# Altium integrated library Microchip Microcontroller 8-Bit PIC18.IntLib: 1070 symbols (part 26 of 43)
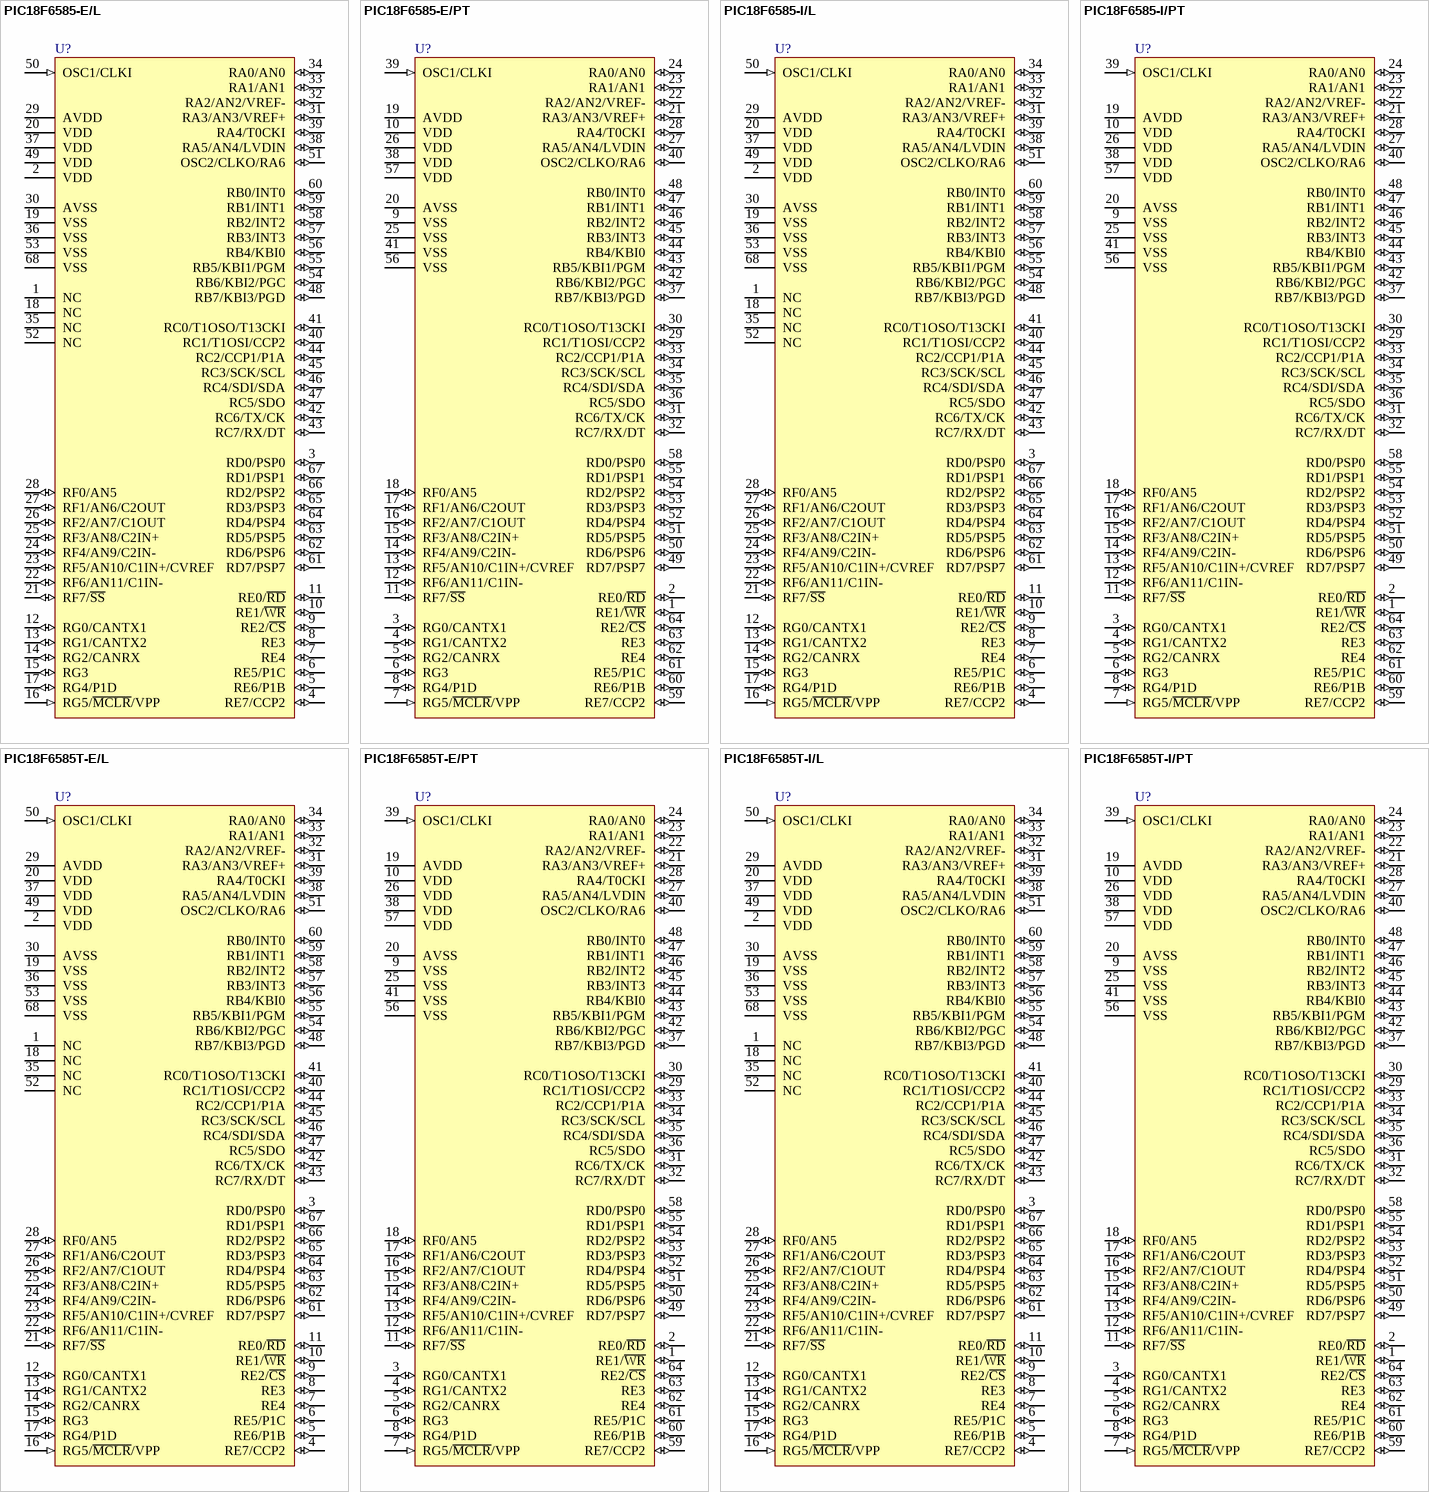
[diagram p149: symbols PIC18F6585-E/L to PIC18F6585T-I/PT]

## PIC18F6585T-E/PT
designator U?
High Performance, 48Kbyte Enhanced Flash Microcontroller with ECAN Module, 64-Pin TQFP, Extended Temperature, Tape and Reel; Published: 11-Oct-2004; LatestRevisionDate: 29-Jan-2009; LatestRevisionNote: Sch. layout revised. 3D Model Removed.; DatasheetVersion: revC, Mar-2004; PackageVersion: revAW, Oct-2008; PackageReference: TQFP-PT64; Publisher: Altium Limited; PackageDescription: 64-Lead Thin Plastic Quad Flat Pack (PT) - 10x10x1mm Body, 2.00mm [TQFP]; Code_JEDEC: MS-026; ComponentLink1Description: Manufacturer Link; ComponentLink1URL: http://www.microchip.com; ComponentLink2Description: Datasheet; ComponentLink2URL: http://ww1.microchip.com/downloads/en/DeviceDoc/30491c.pdf; ComponentLink3Description: Packaging Specification; ComponentLink3URL: http://ww1.microchip.com/downloads/en/PackagingSpec/00049AW.pdf
footprint TQFP-PT64_N (Thin QFP, 64-Leads, Body 10x10mm, Pitch 0.5mm, IPC Medium Density)
footprint TQFP-PT64_L (Thin QFP, 64-Leads, Body 10x10mm, Pitch 0.5mm, IPC High Density)
footprint TQFP-PT64_M (Thin QFP, 64-Leads, Body 10x10mm, Pitch 0.5mm, IPC Low Density)
pins: 1 RE1/~{WR} (io), 2 RE0/~{RD} (io), 3 RG0/CANTX1 (io), 4 RG1/CANTX2 (io), 5 RG2/CANRX (io), 6 RG3 (io), 7 RG5/~{MCLR}/VPP (in), 8 RG4/P1D (io), 9 VSS (power), 10 VDD (power), 11 RF7/~{SS} (io), 12 RF6/AN11/C1IN- (io), 13 RF5/AN10/C1IN+/CVREF (io), 14 RF4/AN9/C2IN- (io), 15 RF3/AN8/C2IN+ (io), 16 RF2/AN7/C1OUT (io), 17 RF1/AN6/C2OUT (io), 18 RF0/AN5 (io), 19 AVDD (power), 20 AVSS (power), 21 RA3/AN3/VREF+ (io), 22 RA2/AN2/VREF- (io), 23 RA1/AN1 (io), 24 RA0/AN0 (io), 25 VSS (power), 26 VDD (power), 27 RA5/AN4/LVDIN (io), 28 RA4/T0CKI (io), 29 RC1/T1OSI/CCP2 (io), 30 RC0/T1OSO/T13CKI (io), 31 RC6/TX/CK (io), 32 RC7/RX/DT (io), 33 RC2/CCP1/P1A (io), 34 RC3/SCK/SCL (io), 35 RC4/SDI/SDA (io), 36 RC5/SDO (io), 37 RB7/KBI3/PGD (io), 38 VDD (power), 39 OSC1/CLKI (in), 40 OSC2/CLKO/RA6 (io), 41 VSS (power), 42 RB6/KBI2/PGC (io), 43 RB5/KBI1/PGM (io), 44 RB4/KBI0 (io), 45 RB3/INT3 (io), 46 RB2/INT2 (io), 47 RB1/INT1 (io), 48 RB0/INT0 (io), 49 RD7/PSP7 (io), 50 RD6/PSP6 (io), 51 RD5/PSP5 (io), 52 RD4/PSP4 (io), 53 RD3/PSP3 (io), 54 RD2/PSP2 (io), 55 RD1/PSP1 (io), 56 VSS (power), 57 VDD (power), 58 RD0/PSP0 (io), 59 RE7/CCP2 (io), 60 RE6/P1B (io), 61 RE5/P1C (io), 62 RE4 (io), 63 RE3 (io), 64 RE2/~{CS} (io)

## PIC18F6585T-I/L
designator U?
High Performance, 48Kbyte Enhanced Flash Microcontroller with ECAN Module, 68-Pin PLCC, Industrial Temperature, Tape and Reel; Published: 11-Oct-2004; LatestRevisionDate: 29-Jan-2009; LatestRevisionNote: Sch. layout revised. 3D Model Removed.; DatasheetVersion: revC, Mar-2004; PackageVersion: revAW, Oct-2008; PackageReference: PLCC-L68; Publisher: Altium Limited; PackageDescription: 68-Lead Plastic Leaded Chip Carrier (L) - Square [PLCC]; Code_JEDEC: MO-047; Code_IPC: PLCC-68; ComponentLink1Description: Manufacturer Link; ComponentLink1URL: http://www.microchip.com; ComponentLink2Description: Datasheet; ComponentLink2URL: http://ww1.microchip.com/downloads/en/DeviceDoc/30491c.pdf; ComponentLink3Description: Packaging Specification; ComponentLink3URL: http://ww1.microchip.com/downloads/en/PackagingSpec/00049AW.pdf
footprint PLCC-L68_N (Leaded Chip Carrier, 68-Leads, Body 24x24mm, Pitch 1.27mm, IPC Medium Density)
footprint PLCC-L68_L (Leaded Chip Carrier, 68-Leads, Body 24x24mm, Pitch 1.27mm, IPC High Density)
footprint PLCC-L68_M (Leaded Chip Carrier, 68-Leads, Body 24x24mm, Pitch 1.27mm, IPC Low Density)
pins: 1 NC, 2 VDD (power), 3 RD0/PSP0 (io), 4 RE7/CCP2 (io), 5 RE6/P1B (io), 6 RE5/P1C (io), 7 RE4 (io), 8 RE3 (io), 9 RE2/~{CS} (io), 10 RE1/~{WR} (io), 11 RE0/~{RD} (io), 12 RG0/CANTX1 (io), 13 RG1/CANTX2 (io), 14 RG2/CANRX (io), 15 RG3 (io), 16 RG5/~{MCLR}/VPP (in), 17 RG4/P1D (io), 18 NC, 19 VSS (power), 20 VDD (power), 21 RF7/~{SS} (io), 22 RF6/AN11/C1IN- (io), 23 RF5/AN10/C1IN+/CVREF (io), 24 RF4/AN9/C2IN- (io), 25 RF3/AN8/C2IN+ (io), 26 RF2/AN7/C1OUT (io), 27 RF1/AN6/C2OUT (io), 28 RF0/AN5 (io), 29 AVDD (power), 30 AVSS (power), 31 RA3/AN3/VREF+ (io), 32 RA2/AN2/VREF- (io), 33 RA1/AN1 (io), 34 RA0/AN0 (io), 35 NC, 36 VSS (power), 37 VDD (power), 38 RA5/AN4/LVDIN (io), 39 RA4/T0CKI (io), 40 RC1/T1OSI/CCP2 (io), 41 RC0/T1OSO/T13CKI (io), 42 RC6/TX/CK (io), 43 RC7/RX/DT (io), 44 RC2/CCP1/P1A (io), 45 RC3/SCK/SCL (io), 46 RC4/SDI/SDA (io), 47 RC5/SDO (io), 48 RB7/KBI3/PGD (io), 49 VDD (power), 50 OSC1/CLKI (in), 51 OSC2/CLKO/RA6 (io), 52 NC, 53 VSS (power), 54 RB6/KBI2/PGC (io), 55 RB5/KBI1/PGM (io), 56 RB4/KBI0 (io), 57 RB3/INT3 (io), 58 RB2/INT2 (io), 59 RB1/INT1 (io), 60 RB0/INT0 (io), 61 RD7/PSP7 (io), 62 RD6/PSP6 (io), 63 RD5/PSP5 (io), 64 RD4/PSP4 (io), 65 RD3/PSP3 (io), 66 RD2/PSP2 (io), 67 RD1/PSP1 (io), 68 VSS (power)

## PIC18F6585T-I/PT
designator U?
High Performance, 48Kbyte Enhanced Flash Microcontroller with ECAN Module, 64-Pin TQFP, Industrial Temperature, Tape and Reel; Published: 11-Oct-2004; LatestRevisionDate: 29-Jan-2009; LatestRevisionNote: Sch. layout revised. 3D Model Removed.; DatasheetVersion: revC, Mar-2004; PackageVersion: revAW, Oct-2008; PackageReference: TQFP-PT64; Publisher: Altium Limited; PackageDescription: 64-Lead Thin Plastic Quad Flat Pack (PT) - 10x10x1mm Body, 2.00mm [TQFP]; Code_JEDEC: MS-026; ComponentLink1Description: Manufacturer Link; ComponentLink1URL: http://www.microchip.com; ComponentLink2Description: Datasheet; ComponentLink2URL: http://ww1.microchip.com/downloads/en/DeviceDoc/30491c.pdf; ComponentLink3Description: Packaging Specification; ComponentLink3URL: http://ww1.microchip.com/downloads/en/PackagingSpec/00049AW.pdf
footprint TQFP-PT64_N (Thin QFP, 64-Leads, Body 10x10mm, Pitch 0.5mm, IPC Medium Density)
footprint TQFP-PT64_L (Thin QFP, 64-Leads, Body 10x10mm, Pitch 0.5mm, IPC High Density)
footprint TQFP-PT64_M (Thin QFP, 64-Leads, Body 10x10mm, Pitch 0.5mm, IPC Low Density)
pins: 1 RE1/~{WR} (io), 2 RE0/~{RD} (io), 3 RG0/CANTX1 (io), 4 RG1/CANTX2 (io), 5 RG2/CANRX (io), 6 RG3 (io), 7 RG5/~{MCLR}/VPP (in), 8 RG4/P1D (io), 9 VSS (power), 10 VDD (power), 11 RF7/~{SS} (io), 12 RF6/AN11/C1IN- (io), 13 RF5/AN10/C1IN+/CVREF (io), 14 RF4/AN9/C2IN- (io), 15 RF3/AN8/C2IN+ (io), 16 RF2/AN7/C1OUT (io), 17 RF1/AN6/C2OUT (io), 18 RF0/AN5 (io), 19 AVDD (power), 20 AVSS (power), 21 RA3/AN3/VREF+ (io), 22 RA2/AN2/VREF- (io), 23 RA1/AN1 (io), 24 RA0/AN0 (io), 25 VSS (power), 26 VDD (power), 27 RA5/AN4/LVDIN (io), 28 RA4/T0CKI (io), 29 RC1/T1OSI/CCP2 (io), 30 RC0/T1OSO/T13CKI (io), 31 RC6/TX/CK (io), 32 RC7/RX/DT (io), 33 RC2/CCP1/P1A (io), 34 RC3/SCK/SCL (io), 35 RC4/SDI/SDA (io), 36 RC5/SDO (io), 37 RB7/KBI3/PGD (io), 38 VDD (power), 39 OSC1/CLKI (in), 40 OSC2/CLKO/RA6 (io), 41 VSS (power), 42 RB6/KBI2/PGC (io), 43 RB5/KBI1/PGM (io), 44 RB4/KBI0 (io), 45 RB3/INT3 (io), 46 RB2/INT2 (io), 47 RB1/INT1 (io), 48 RB0/INT0 (io), 49 RD7/PSP7 (io), 50 RD6/PSP6 (io), 51 RD5/PSP5 (io), 52 RD4/PSP4 (io), 53 RD3/PSP3 (io), 54 RD2/PSP2 (io), 55 RD1/PSP1 (io), 56 VSS (power), 57 VDD (power), 58 RD0/PSP0 (io), 59 RE7/CCP2 (io), 60 RE6/P1B (io), 61 RE5/P1C (io), 62 RE4 (io), 63 RE3 (io), 64 RE2/~{CS} (io)

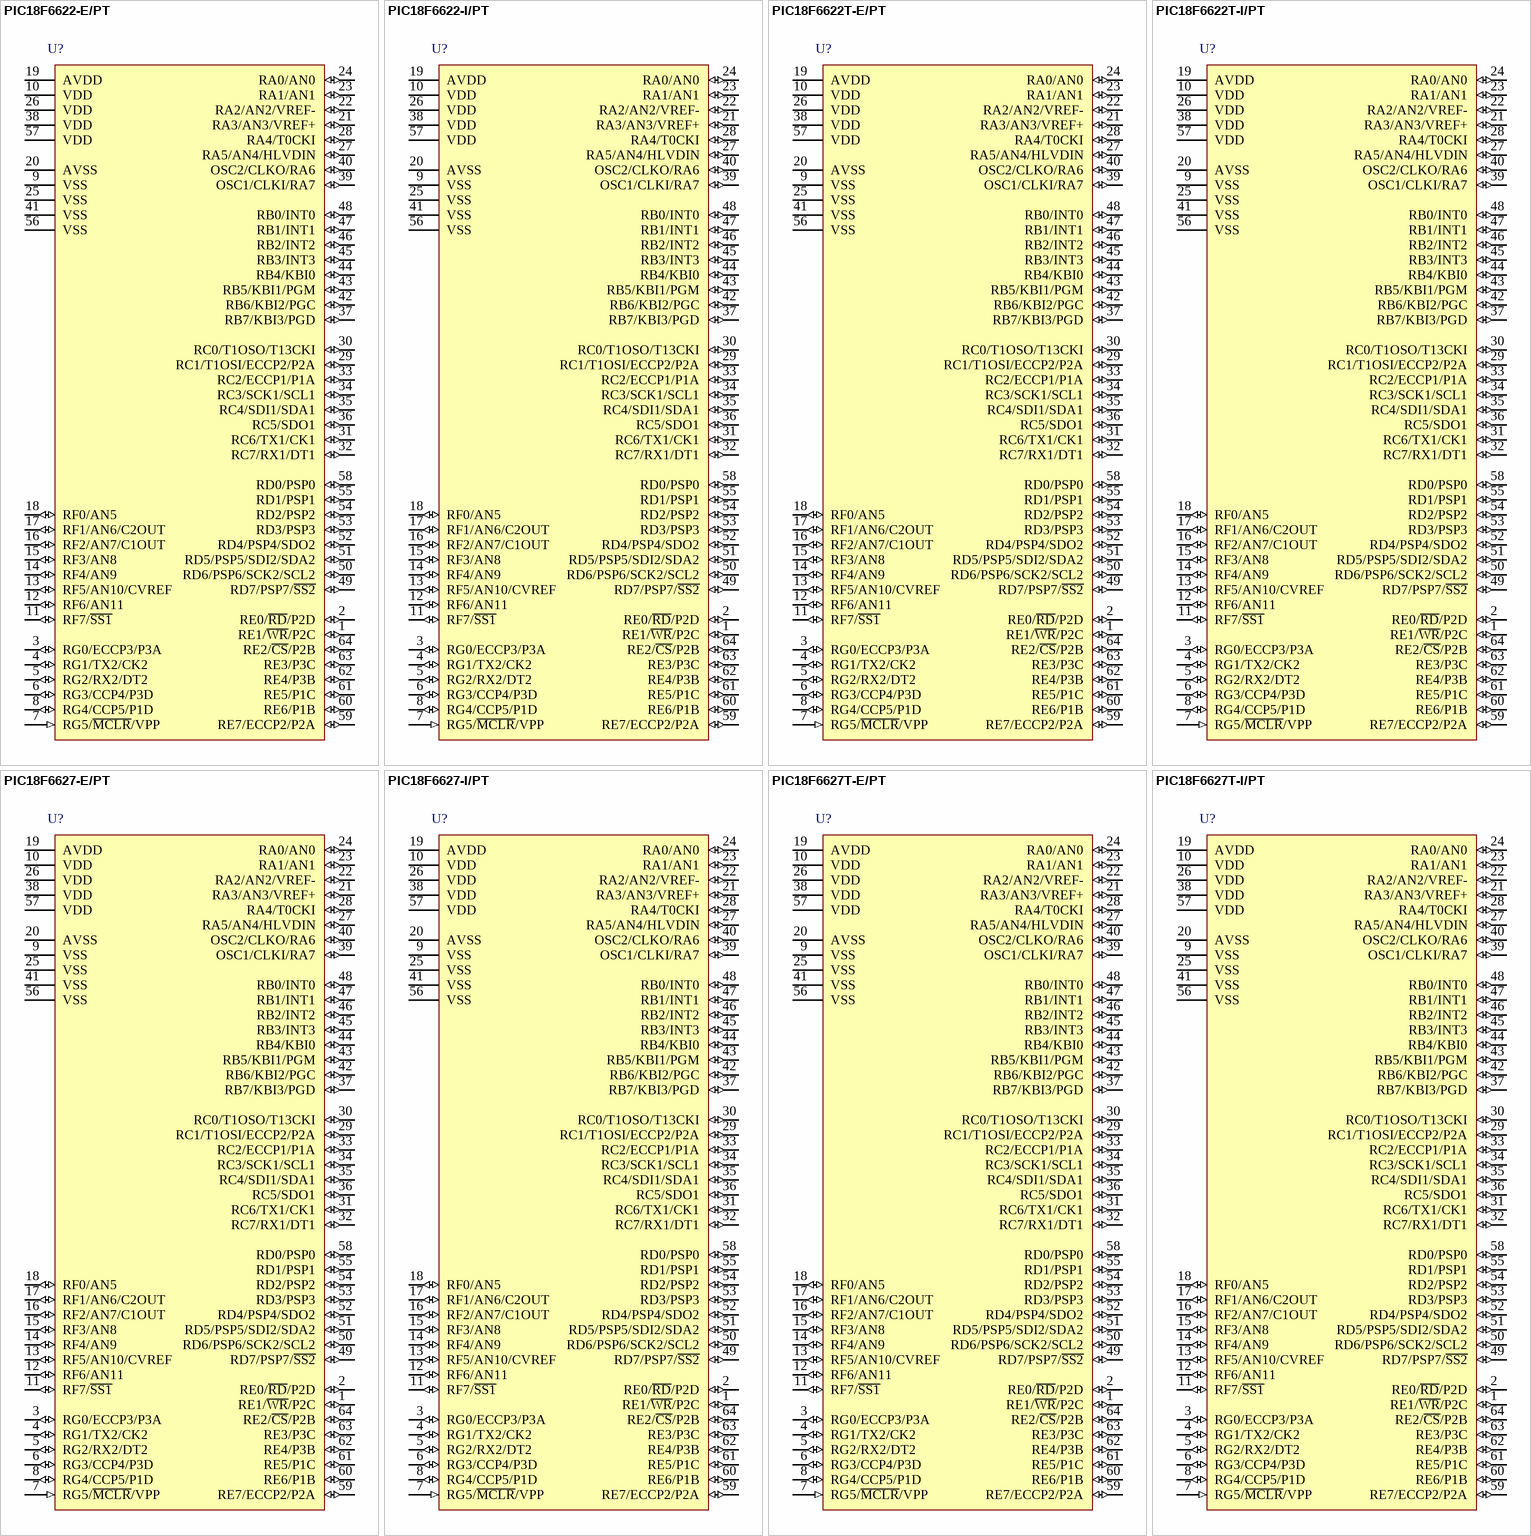
[diagram p71: symbols PIC18F6622-E/PT to PIC18F6627T-I/PT]

## PIC18F6622-E/PT
designator U?
1-Mbit, Enhanced Flash Microcontroller with 10-Bit A/D and nanoWatt Technology, 64K Flash, 64-Pin TQFP, Extended Temperature Range; Published: 29-Jan-2009; DatasheetVersion: revC, Oct-2008; PackageVersion: revAW, Oct-2008; PackageReference: TQFP-PT64; Publisher: Altium Limited; PackageDescription: 64-Lead Thin Plastic Quad Flat Pack (PT) - 10x10x1mm Body, 2.00mm [TQFP]; Code_JEDEC: MS-026; ComponentLink1Description: Manufacturer Link; ComponentLink1URL: http://www.microchip.com; ComponentLink2Description: Datasheet; ComponentLink2URL: http://ww1.microchip.com/downloads/en/DeviceDoc/39646c.pdf; ComponentLink3Description: Packaging Specification; ComponentLink3URL: http://ww1.microchip.com/downloads/en/PackagingSpec/00049AW.pdf
footprint TQFP-PT64_N (Thin QFP, 64-Leads, Body 10x10mm, Pitch 0.5mm, IPC Medium Density)
footprint TQFP-PT64_L (Thin QFP, 64-Leads, Body 10x10mm, Pitch 0.5mm, IPC High Density)
footprint TQFP-PT64_M (Thin QFP, 64-Leads, Body 10x10mm, Pitch 0.5mm, IPC Low Density)
pins: 1 RE1/~{WR}/P2C (io), 2 RE0/~{RD}/P2D (io), 3 RG0/ECCP3/P3A (io), 4 RG1/TX2/CK2 (io), 5 RG2/RX2/DT2 (io), 6 RG3/CCP4/P3D (io), 7 RG5/~{MCLR}/VPP (in), 8 RG4/CCP5/P1D (io), 9 VSS (power), 10 VDD (power), 11 RF7/~{SS1} (io), 12 RF6/AN11 (io), 13 RF5/AN10/CVREF (io), 14 RF4/AN9 (io), 15 RF3/AN8 (io), 16 RF2/AN7/C1OUT (io), 17 RF1/AN6/C2OUT (io), 18 RF0/AN5 (io), 19 AVDD (power), 20 AVSS (power), 21 RA3/AN3/VREF+ (io), 22 RA2/AN2/VREF- (io), 23 RA1/AN1 (io), 24 RA0/AN0 (io), 25 VSS (power), 26 VDD (power), 27 RA5/AN4/HLVDIN (io), 28 RA4/T0CKI (io), 29 RC1/T1OSI/ECCP2/P2A (io), 30 RC0/T1OSO/T13CKI (io), 31 RC6/TX1/CK1 (io), 32 RC7/RX1/DT1 (io), 33 RC2/ECCP1/P1A (io), 34 RC3/SCK1/SCL1 (io), 35 RC4/SDI1/SDA1 (io), 36 RC5/SDO1 (io), 37 RB7/KBI3/PGD (io), 38 VDD (power), 39 OSC1/CLKI/RA7 (io), 40 OSC2/CLKO/RA6 (io), 41 VSS (power), 42 RB6/KBI2/PGC (io), 43 RB5/KBI1/PGM (io), 44 RB4/KBI0 (io), 45 RB3/INT3 (io), 46 RB2/INT2 (io), 47 RB1/INT1 (io), 48 RB0/INT0 (io), 49 RD7/PSP7/~{SS2} (io), 50 RD6/PSP6/SCK2/SCL2 (io), 51 RD5/PSP5/SDI2/SDA2 (io), 52 RD4/PSP4/SDO2 (io), 53 RD3/PSP3 (io), 54 RD2/PSP2 (io), 55 RD1/PSP1 (io), 56 VSS (power), 57 VDD (power), 58 RD0/PSP0 (io), 59 RE7/ECCP2/P2A (io), 60 RE6/P1B (io), 61 RE5/P1C (io), 62 RE4/P3B (io), 63 RE3/P3C (io), 64 RE2/~{CS}/P2B (io)

## PIC18F6622-I/PT
designator U?
1-Mbit, Enhanced Flash Microcontroller with 10-Bit A/D and nanoWatt Technology, 64K Flash, 64-Pin TQFP, Industrial Temperature Range; Published: 29-Jan-2009; DatasheetVersion: revC, Oct-2008; PackageVersion: revAW, Oct-2008; PackageReference: TQFP-PT64; Publisher: Altium Limited; PackageDescription: 64-Lead Thin Plastic Quad Flat Pack (PT) - 10x10x1mm Body, 2.00mm [TQFP]; Code_JEDEC: MS-026; ComponentLink1Description: Manufacturer Link; ComponentLink1URL: http://www.microchip.com; ComponentLink2Description: Datasheet; ComponentLink2URL: http://ww1.microchip.com/downloads/en/DeviceDoc/39646c.pdf; ComponentLink3Description: Packaging Specification; ComponentLink3URL: http://ww1.microchip.com/downloads/en/PackagingSpec/00049AW.pdf
footprint TQFP-PT64_N (Thin QFP, 64-Leads, Body 10x10mm, Pitch 0.5mm, IPC Medium Density)
footprint TQFP-PT64_L (Thin QFP, 64-Leads, Body 10x10mm, Pitch 0.5mm, IPC High Density)
footprint TQFP-PT64_M (Thin QFP, 64-Leads, Body 10x10mm, Pitch 0.5mm, IPC Low Density)
pins: 1 RE1/~{WR}/P2C (io), 2 RE0/~{RD}/P2D (io), 3 RG0/ECCP3/P3A (io), 4 RG1/TX2/CK2 (io), 5 RG2/RX2/DT2 (io), 6 RG3/CCP4/P3D (io), 7 RG5/~{MCLR}/VPP (in), 8 RG4/CCP5/P1D (io), 9 VSS (power), 10 VDD (power), 11 RF7/~{SS1} (io), 12 RF6/AN11 (io), 13 RF5/AN10/CVREF (io), 14 RF4/AN9 (io), 15 RF3/AN8 (io), 16 RF2/AN7/C1OUT (io), 17 RF1/AN6/C2OUT (io), 18 RF0/AN5 (io), 19 AVDD (power), 20 AVSS (power), 21 RA3/AN3/VREF+ (io), 22 RA2/AN2/VREF- (io), 23 RA1/AN1 (io), 24 RA0/AN0 (io), 25 VSS (power), 26 VDD (power), 27 RA5/AN4/HLVDIN (io), 28 RA4/T0CKI (io), 29 RC1/T1OSI/ECCP2/P2A (io), 30 RC0/T1OSO/T13CKI (io), 31 RC6/TX1/CK1 (io), 32 RC7/RX1/DT1 (io), 33 RC2/ECCP1/P1A (io), 34 RC3/SCK1/SCL1 (io), 35 RC4/SDI1/SDA1 (io), 36 RC5/SDO1 (io), 37 RB7/KBI3/PGD (io), 38 VDD (power), 39 OSC1/CLKI/RA7 (io), 40 OSC2/CLKO/RA6 (io), 41 VSS (power), 42 RB6/KBI2/PGC (io), 43 RB5/KBI1/PGM (io), 44 RB4/KBI0 (io), 45 RB3/INT3 (io), 46 RB2/INT2 (io), 47 RB1/INT1 (io), 48 RB0/INT0 (io), 49 RD7/PSP7/~{SS2} (io), 50 RD6/PSP6/SCK2/SCL2 (io), 51 RD5/PSP5/SDI2/SDA2 (io), 52 RD4/PSP4/SDO2 (io), 53 RD3/PSP3 (io), 54 RD2/PSP2 (io), 55 RD1/PSP1 (io), 56 VSS (power), 57 VDD (power), 58 RD0/PSP0 (io), 59 RE7/ECCP2/P2A (io), 60 RE6/P1B (io), 61 RE5/P1C (io), 62 RE4/P3B (io), 63 RE3/P3C (io), 64 RE2/~{CS}/P2B (io)

## PIC18F6622T-E/PT
designator U?
1-Mbit, Enhanced Flash Microcontroller with 10-Bit A/D and nanoWatt Technology, 64K Flash, 64-Pin TQFP, Extended Temperature Range, Tape and Reel; Published: 29-Jan-2009; DatasheetVersion: revC, Oct-2008; PackageVersion: revAW, Oct-2008; PackageReference: TQFP-PT64; Publisher: Altium Limited; PackageDescription: 64-Lead Thin Plastic Quad Flat Pack (PT) - 10x10x1mm Body, 2.00mm [TQFP]; Code_JEDEC: MS-026; ComponentLink1Description: Manufacturer Link; ComponentLink1URL: http://www.microchip.com; ComponentLink2Description: Datasheet; ComponentLink2URL: http://ww1.microchip.com/downloads/en/DeviceDoc/39646c.pdf; ComponentLink3Description: Packaging Specification; ComponentLink3URL: http://ww1.microchip.com/downloads/en/PackagingSpec/00049AW.pdf
footprint TQFP-PT64_N (Thin QFP, 64-Leads, Body 10x10mm, Pitch 0.5mm, IPC Medium Density)
footprint TQFP-PT64_L (Thin QFP, 64-Leads, Body 10x10mm, Pitch 0.5mm, IPC High Density)
footprint TQFP-PT64_M (Thin QFP, 64-Leads, Body 10x10mm, Pitch 0.5mm, IPC Low Density)
pins: 1 RE1/~{WR}/P2C (io), 2 RE0/~{RD}/P2D (io), 3 RG0/ECCP3/P3A (io), 4 RG1/TX2/CK2 (io), 5 RG2/RX2/DT2 (io), 6 RG3/CCP4/P3D (io), 7 RG5/~{MCLR}/VPP (in), 8 RG4/CCP5/P1D (io), 9 VSS (power), 10 VDD (power), 11 RF7/~{SS1} (io), 12 RF6/AN11 (io), 13 RF5/AN10/CVREF (io), 14 RF4/AN9 (io), 15 RF3/AN8 (io), 16 RF2/AN7/C1OUT (io), 17 RF1/AN6/C2OUT (io), 18 RF0/AN5 (io), 19 AVDD (power), 20 AVSS (power), 21 RA3/AN3/VREF+ (io), 22 RA2/AN2/VREF- (io), 23 RA1/AN1 (io), 24 RA0/AN0 (io), 25 VSS (power), 26 VDD (power), 27 RA5/AN4/HLVDIN (io), 28 RA4/T0CKI (io), 29 RC1/T1OSI/ECCP2/P2A (io), 30 RC0/T1OSO/T13CKI (io), 31 RC6/TX1/CK1 (io), 32 RC7/RX1/DT1 (io), 33 RC2/ECCP1/P1A (io), 34 RC3/SCK1/SCL1 (io), 35 RC4/SDI1/SDA1 (io), 36 RC5/SDO1 (io), 37 RB7/KBI3/PGD (io), 38 VDD (power), 39 OSC1/CLKI/RA7 (io), 40 OSC2/CLKO/RA6 (io), 41 VSS (power), 42 RB6/KBI2/PGC (io), 43 RB5/KBI1/PGM (io), 44 RB4/KBI0 (io), 45 RB3/INT3 (io), 46 RB2/INT2 (io), 47 RB1/INT1 (io), 48 RB0/INT0 (io), 49 RD7/PSP7/~{SS2} (io), 50 RD6/PSP6/SCK2/SCL2 (io), 51 RD5/PSP5/SDI2/SDA2 (io), 52 RD4/PSP4/SDO2 (io), 53 RD3/PSP3 (io), 54 RD2/PSP2 (io), 55 RD1/PSP1 (io), 56 VSS (power), 57 VDD (power), 58 RD0/PSP0 (io), 59 RE7/ECCP2/P2A (io), 60 RE6/P1B (io), 61 RE5/P1C (io), 62 RE4/P3B (io), 63 RE3/P3C (io), 64 RE2/~{CS}/P2B (io)

## PIC18F6622T-I/PT
designator U?
1-Mbit, Enhanced Flash Microcontroller with 10-Bit A/D and nanoWatt Technology, 64K Flash, 64-Pin TQFP, Industrial Temperature Range, Tape and Reel; Published: 29-Jan-2009; DatasheetVersion: revC, Oct-2008; PackageVersion: revAW, Oct-2008; PackageReference: TQFP-PT64; Publisher: Altium Limited; PackageDescription: 64-Lead Thin Plastic Quad Flat Pack (PT) - 10x10x1mm Body, 2.00mm [TQFP]; Code_JEDEC: MS-026; ComponentLink1Description: Manufacturer Link; ComponentLink1URL: http://www.microchip.com; ComponentLink2Description: Datasheet; ComponentLink2URL: http://ww1.microchip.com/downloads/en/DeviceDoc/39646c.pdf; ComponentLink3Description: Packaging Specification; ComponentLink3URL: http://ww1.microchip.com/downloads/en/PackagingSpec/00049AW.pdf
footprint TQFP-PT64_N (Thin QFP, 64-Leads, Body 10x10mm, Pitch 0.5mm, IPC Medium Density)
footprint TQFP-PT64_L (Thin QFP, 64-Leads, Body 10x10mm, Pitch 0.5mm, IPC High Density)
footprint TQFP-PT64_M (Thin QFP, 64-Leads, Body 10x10mm, Pitch 0.5mm, IPC Low Density)
pins: 1 RE1/~{WR}/P2C (io), 2 RE0/~{RD}/P2D (io), 3 RG0/ECCP3/P3A (io), 4 RG1/TX2/CK2 (io), 5 RG2/RX2/DT2 (io), 6 RG3/CCP4/P3D (io), 7 RG5/~{MCLR}/VPP (in), 8 RG4/CCP5/P1D (io), 9 VSS (power), 10 VDD (power), 11 RF7/~{SS1} (io), 12 RF6/AN11 (io), 13 RF5/AN10/CVREF (io), 14 RF4/AN9 (io), 15 RF3/AN8 (io), 16 RF2/AN7/C1OUT (io), 17 RF1/AN6/C2OUT (io), 18 RF0/AN5 (io), 19 AVDD (power), 20 AVSS (power), 21 RA3/AN3/VREF+ (io), 22 RA2/AN2/VREF- (io), 23 RA1/AN1 (io), 24 RA0/AN0 (io), 25 VSS (power), 26 VDD (power), 27 RA5/AN4/HLVDIN (io), 28 RA4/T0CKI (io), 29 RC1/T1OSI/ECCP2/P2A (io), 30 RC0/T1OSO/T13CKI (io), 31 RC6/TX1/CK1 (io), 32 RC7/RX1/DT1 (io), 33 RC2/ECCP1/P1A (io), 34 RC3/SCK1/SCL1 (io), 35 RC4/SDI1/SDA1 (io), 36 RC5/SDO1 (io), 37 RB7/KBI3/PGD (io), 38 VDD (power), 39 OSC1/CLKI/RA7 (io), 40 OSC2/CLKO/RA6 (io), 41 VSS (power), 42 RB6/KBI2/PGC (io), 43 RB5/KBI1/PGM (io), 44 RB4/KBI0 (io), 45 RB3/INT3 (io), 46 RB2/INT2 (io), 47 RB1/INT1 (io), 48 RB0/INT0 (io), 49 RD7/PSP7/~{SS2} (io), 50 RD6/PSP6/SCK2/SCL2 (io), 51 RD5/PSP5/SDI2/SDA2 (io), 52 RD4/PSP4/SDO2 (io), 53 RD3/PSP3 (io), 54 RD2/PSP2 (io), 55 RD1/PSP1 (io), 56 VSS (power), 57 VDD (power), 58 RD0/PSP0 (io), 59 RE7/ECCP2/P2A (io), 60 RE6/P1B (io), 61 RE5/P1C (io), 62 RE4/P3B (io), 63 RE3/P3C (io), 64 RE2/~{CS}/P2B (io)

## PIC18F6627-E/PT
designator U?
1-Mbit, Enhanced Flash Microcontroller with 10-Bit A/D and nanoWatt Technology, 96K Flash, 64-Pin TQFP, Extended Temperature Range; Published: 29-Jan-2009; DatasheetVersion: revC, Oct-2008; PackageVersion: revAW, Oct-2008; PackageReference: TQFP-PT64; Publisher: Altium Limited; PackageDescription: 64-Lead Thin Plastic Quad Flat Pack (PT) - 10x10x1mm Body, 2.00mm [TQFP]; Code_JEDEC: MS-026; ComponentLink1Description: Manufacturer Link; ComponentLink1URL: http://www.microchip.com; ComponentLink2Description: Datasheet; ComponentLink2URL: http://ww1.microchip.com/downloads/en/DeviceDoc/39646c.pdf; ComponentLink3Description: Packaging Specification; ComponentLink3URL: http://ww1.microchip.com/downloads/en/PackagingSpec/00049AW.pdf
footprint TQFP-PT64_N (Thin QFP, 64-Leads, Body 10x10mm, Pitch 0.5mm, IPC Medium Density)
footprint TQFP-PT64_L (Thin QFP, 64-Leads, Body 10x10mm, Pitch 0.5mm, IPC High Density)
footprint TQFP-PT64_M (Thin QFP, 64-Leads, Body 10x10mm, Pitch 0.5mm, IPC Low Density)
pins: 1 RE1/~{WR}/P2C (io), 2 RE0/~{RD}/P2D (io), 3 RG0/ECCP3/P3A (io), 4 RG1/TX2/CK2 (io), 5 RG2/RX2/DT2 (io), 6 RG3/CCP4/P3D (io), 7 RG5/~{MCLR}/VPP (in), 8 RG4/CCP5/P1D (io), 9 VSS (power), 10 VDD (power), 11 RF7/~{SS1} (io), 12 RF6/AN11 (io), 13 RF5/AN10/CVREF (io), 14 RF4/AN9 (io), 15 RF3/AN8 (io), 16 RF2/AN7/C1OUT (io), 17 RF1/AN6/C2OUT (io), 18 RF0/AN5 (io), 19 AVDD (power), 20 AVSS (power), 21 RA3/AN3/VREF+ (io), 22 RA2/AN2/VREF- (io), 23 RA1/AN1 (io), 24 RA0/AN0 (io), 25 VSS (power), 26 VDD (power), 27 RA5/AN4/HLVDIN (io), 28 RA4/T0CKI (io), 29 RC1/T1OSI/ECCP2/P2A (io), 30 RC0/T1OSO/T13CKI (io), 31 RC6/TX1/CK1 (io), 32 RC7/RX1/DT1 (io), 33 RC2/ECCP1/P1A (io), 34 RC3/SCK1/SCL1 (io), 35 RC4/SDI1/SDA1 (io), 36 RC5/SDO1 (io), 37 RB7/KBI3/PGD (io), 38 VDD (power), 39 OSC1/CLKI/RA7 (io), 40 OSC2/CLKO/RA6 (io), 41 VSS (power), 42 RB6/KBI2/PGC (io), 43 RB5/KBI1/PGM (io), 44 RB4/KBI0 (io), 45 RB3/INT3 (io), 46 RB2/INT2 (io), 47 RB1/INT1 (io), 48 RB0/INT0 (io), 49 RD7/PSP7/~{SS2} (io), 50 RD6/PSP6/SCK2/SCL2 (io), 51 RD5/PSP5/SDI2/SDA2 (io), 52 RD4/PSP4/SDO2 (io), 53 RD3/PSP3 (io), 54 RD2/PSP2 (io), 55 RD1/PSP1 (io), 56 VSS (power), 57 VDD (power), 58 RD0/PSP0 (io), 59 RE7/ECCP2/P2A (io), 60 RE6/P1B (io), 61 RE5/P1C (io), 62 RE4/P3B (io), 63 RE3/P3C (io), 64 RE2/~{CS}/P2B (io)

## PIC18F6627-I/PT
designator U?
1-Mbit, Enhanced Flash Microcontroller with 10-Bit A/D and nanoWatt Technology, 96K Flash, 64-Pin TQFP, Industrial Temperature Range; Published: 29-Jan-2009; DatasheetVersion: revC, Oct-2008; PackageVersion: revAW, Oct-2008; PackageReference: TQFP-PT64; Publisher: Altium Limited; PackageDescription: 64-Lead Thin Plastic Quad Flat Pack (PT) - 10x10x1mm Body, 2.00mm [TQFP]; Code_JEDEC: MS-026; ComponentLink1Description: Manufacturer Link; ComponentLink1URL: http://www.microchip.com; ComponentLink2Description: Datasheet; ComponentLink2URL: http://ww1.microchip.com/downloads/en/DeviceDoc/39646c.pdf; ComponentLink3Description: Packaging Specification; ComponentLink3URL: http://ww1.microchip.com/downloads/en/PackagingSpec/00049AW.pdf
footprint TQFP-PT64_N (Thin QFP, 64-Leads, Body 10x10mm, Pitch 0.5mm, IPC Medium Density)
footprint TQFP-PT64_L (Thin QFP, 64-Leads, Body 10x10mm, Pitch 0.5mm, IPC High Density)
footprint TQFP-PT64_M (Thin QFP, 64-Leads, Body 10x10mm, Pitch 0.5mm, IPC Low Density)
pins: 1 RE1/~{WR}/P2C (io), 2 RE0/~{RD}/P2D (io), 3 RG0/ECCP3/P3A (io), 4 RG1/TX2/CK2 (io), 5 RG2/RX2/DT2 (io), 6 RG3/CCP4/P3D (io), 7 RG5/~{MCLR}/VPP (in), 8 RG4/CCP5/P1D (io), 9 VSS (power), 10 VDD (power), 11 RF7/~{SS1} (io), 12 RF6/AN11 (io), 13 RF5/AN10/CVREF (io), 14 RF4/AN9 (io), 15 RF3/AN8 (io), 16 RF2/AN7/C1OUT (io), 17 RF1/AN6/C2OUT (io), 18 RF0/AN5 (io), 19 AVDD (power), 20 AVSS (power), 21 RA3/AN3/VREF+ (io), 22 RA2/AN2/VREF- (io), 23 RA1/AN1 (io), 24 RA0/AN0 (io), 25 VSS (power), 26 VDD (power), 27 RA5/AN4/HLVDIN (io), 28 RA4/T0CKI (io), 29 RC1/T1OSI/ECCP2/P2A (io), 30 RC0/T1OSO/T13CKI (io), 31 RC6/TX1/CK1 (io), 32 RC7/RX1/DT1 (io), 33 RC2/ECCP1/P1A (io), 34 RC3/SCK1/SCL1 (io), 35 RC4/SDI1/SDA1 (io), 36 RC5/SDO1 (io), 37 RB7/KBI3/PGD (io), 38 VDD (power), 39 OSC1/CLKI/RA7 (io), 40 OSC2/CLKO/RA6 (io), 41 VSS (power), 42 RB6/KBI2/PGC (io), 43 RB5/KBI1/PGM (io), 44 RB4/KBI0 (io), 45 RB3/INT3 (io), 46 RB2/INT2 (io), 47 RB1/INT1 (io), 48 RB0/INT0 (io), 49 RD7/PSP7/~{SS2} (io), 50 RD6/PSP6/SCK2/SCL2 (io), 51 RD5/PSP5/SDI2/SDA2 (io), 52 RD4/PSP4/SDO2 (io), 53 RD3/PSP3 (io), 54 RD2/PSP2 (io), 55 RD1/PSP1 (io), 56 VSS (power), 57 VDD (power), 58 RD0/PSP0 (io), 59 RE7/ECCP2/P2A (io), 60 RE6/P1B (io), 61 RE5/P1C (io), 62 RE4/P3B (io), 63 RE3/P3C (io), 64 RE2/~{CS}/P2B (io)

## PIC18F6627T-E/PT
designator U?
1-Mbit, Enhanced Flash Microcontroller with 10-Bit A/D and nanoWatt Technology, 96K Flash, 64-Pin TQFP, Extended Temperature Range, Tape and Reel; Published: 29-Jan-2009; DatasheetVersion: revC, Oct-2008; PackageVersion: revAW, Oct-2008; PackageReference: TQFP-PT64; Publisher: Altium Limited; PackageDescription: 64-Lead Thin Plastic Quad Flat Pack (PT) - 10x10x1mm Body, 2.00mm [TQFP]; Code_JEDEC: MS-026; ComponentLink1Description: Manufacturer Link; ComponentLink1URL: http://www.microchip.com; ComponentLink2Description: Datasheet; ComponentLink2URL: http://ww1.microchip.com/downloads/en/DeviceDoc/39646c.pdf; ComponentLink3Description: Packaging Specification; ComponentLink3URL: http://ww1.microchip.com/downloads/en/PackagingSpec/00049AW.pdf
footprint TQFP-PT64_N (Thin QFP, 64-Leads, Body 10x10mm, Pitch 0.5mm, IPC Medium Density)
footprint TQFP-PT64_L (Thin QFP, 64-Leads, Body 10x10mm, Pitch 0.5mm, IPC High Density)
footprint TQFP-PT64_M (Thin QFP, 64-Leads, Body 10x10mm, Pitch 0.5mm, IPC Low Density)
pins: 1 RE1/~{WR}/P2C (io), 2 RE0/~{RD}/P2D (io), 3 RG0/ECCP3/P3A (io), 4 RG1/TX2/CK2 (io), 5 RG2/RX2/DT2 (io), 6 RG3/CCP4/P3D (io), 7 RG5/~{MCLR}/VPP (in), 8 RG4/CCP5/P1D (io), 9 VSS (power), 10 VDD (power), 11 RF7/~{SS1} (io), 12 RF6/AN11 (io), 13 RF5/AN10/CVREF (io), 14 RF4/AN9 (io), 15 RF3/AN8 (io), 16 RF2/AN7/C1OUT (io), 17 RF1/AN6/C2OUT (io), 18 RF0/AN5 (io), 19 AVDD (power), 20 AVSS (power), 21 RA3/AN3/VREF+ (io), 22 RA2/AN2/VREF- (io), 23 RA1/AN1 (io), 24 RA0/AN0 (io), 25 VSS (power), 26 VDD (power), 27 RA5/AN4/HLVDIN (io), 28 RA4/T0CKI (io), 29 RC1/T1OSI/ECCP2/P2A (io), 30 RC0/T1OSO/T13CKI (io), 31 RC6/TX1/CK1 (io), 32 RC7/RX1/DT1 (io), 33 RC2/ECCP1/P1A (io), 34 RC3/SCK1/SCL1 (io), 35 RC4/SDI1/SDA1 (io), 36 RC5/SDO1 (io), 37 RB7/KBI3/PGD (io), 38 VDD (power), 39 OSC1/CLKI/RA7 (io), 40 OSC2/CLKO/RA6 (io), 41 VSS (power), 42 RB6/KBI2/PGC (io), 43 RB5/KBI1/PGM (io), 44 RB4/KBI0 (io), 45 RB3/INT3 (io), 46 RB2/INT2 (io), 47 RB1/INT1 (io), 48 RB0/INT0 (io), 49 RD7/PSP7/~{SS2} (io), 50 RD6/PSP6/SCK2/SCL2 (io), 51 RD5/PSP5/SDI2/SDA2 (io), 52 RD4/PSP4/SDO2 (io), 53 RD3/PSP3 (io), 54 RD2/PSP2 (io), 55 RD1/PSP1 (io), 56 VSS (power), 57 VDD (power), 58 RD0/PSP0 (io), 59 RE7/ECCP2/P2A (io), 60 RE6/P1B (io), 61 RE5/P1C (io), 62 RE4/P3B (io), 63 RE3/P3C (io), 64 RE2/~{CS}/P2B (io)

## PIC18F6627T-I/PT
designator U?
1-Mbit, Enhanced Flash Microcontroller with 10-Bit A/D and nanoWatt Technology, 96K Flash, 64-Pin TQFP, Industrial Temperature Range, Tape and Reel; Published: 29-Jan-2009; DatasheetVersion: revC, Oct-2008; PackageVersion: revAW, Oct-2008; PackageReference: TQFP-PT64; Publisher: Altium Limited; PackageDescription: 64-Lead Thin Plastic Quad Flat Pack (PT) - 10x10x1mm Body, 2.00mm [TQFP]; Code_JEDEC: MS-026; ComponentLink1Description: Manufacturer Link; ComponentLink1URL: http://www.microchip.com; ComponentLink2Description: Datasheet; ComponentLink2URL: http://ww1.microchip.com/downloads/en/DeviceDoc/39646c.pdf; ComponentLink3Description: Packaging Specification; ComponentLink3URL: http://ww1.microchip.com/downloads/en/PackagingSpec/00049AW.pdf
footprint TQFP-PT64_N (Thin QFP, 64-Leads, Body 10x10mm, Pitch 0.5mm, IPC Medium Density)
footprint TQFP-PT64_L (Thin QFP, 64-Leads, Body 10x10mm, Pitch 0.5mm, IPC High Density)
footprint TQFP-PT64_M (Thin QFP, 64-Leads, Body 10x10mm, Pitch 0.5mm, IPC Low Density)
pins: 1 RE1/~{WR}/P2C (io), 2 RE0/~{RD}/P2D (io), 3 RG0/ECCP3/P3A (io), 4 RG1/TX2/CK2 (io), 5 RG2/RX2/DT2 (io), 6 RG3/CCP4/P3D (io), 7 RG5/~{MCLR}/VPP (in), 8 RG4/CCP5/P1D (io), 9 VSS (power), 10 VDD (power), 11 RF7/~{SS1} (io), 12 RF6/AN11 (io), 13 RF5/AN10/CVREF (io), 14 RF4/AN9 (io), 15 RF3/AN8 (io), 16 RF2/AN7/C1OUT (io), 17 RF1/AN6/C2OUT (io), 18 RF0/AN5 (io), 19 AVDD (power), 20 AVSS (power), 21 RA3/AN3/VREF+ (io), 22 RA2/AN2/VREF- (io), 23 RA1/AN1 (io), 24 RA0/AN0 (io), 25 VSS (power), 26 VDD (power), 27 RA5/AN4/HLVDIN (io), 28 RA4/T0CKI (io), 29 RC1/T1OSI/ECCP2/P2A (io), 30 RC0/T1OSO/T13CKI (io), 31 RC6/TX1/CK1 (io), 32 RC7/RX1/DT1 (io), 33 RC2/ECCP1/P1A (io), 34 RC3/SCK1/SCL1 (io), 35 RC4/SDI1/SDA1 (io), 36 RC5/SDO1 (io), 37 RB7/KBI3/PGD (io), 38 VDD (power), 39 OSC1/CLKI/RA7 (io), 40 OSC2/CLKO/RA6 (io), 41 VSS (power), 42 RB6/KBI2/PGC (io), 43 RB5/KBI1/PGM (io), 44 RB4/KBI0 (io), 45 RB3/INT3 (io), 46 RB2/INT2 (io), 47 RB1/INT1 (io), 48 RB0/INT0 (io), 49 RD7/PSP7/~{SS2} (io), 50 RD6/PSP6/SCK2/SCL2 (io), 51 RD5/PSP5/SDI2/SDA2 (io), 52 RD4/PSP4/SDO2 (io), 53 RD3/PSP3 (io), 54 RD2/PSP2 (io), 55 RD1/PSP1 (io), 56 VSS (power), 57 VDD (power), 58 RD0/PSP0 (io), 59 RE7/ECCP2/P2A (io), 60 RE6/P1B (io), 61 RE5/P1C (io), 62 RE4/P3B (io), 63 RE3/P3C (io), 64 RE2/~{CS}/P2B (io)

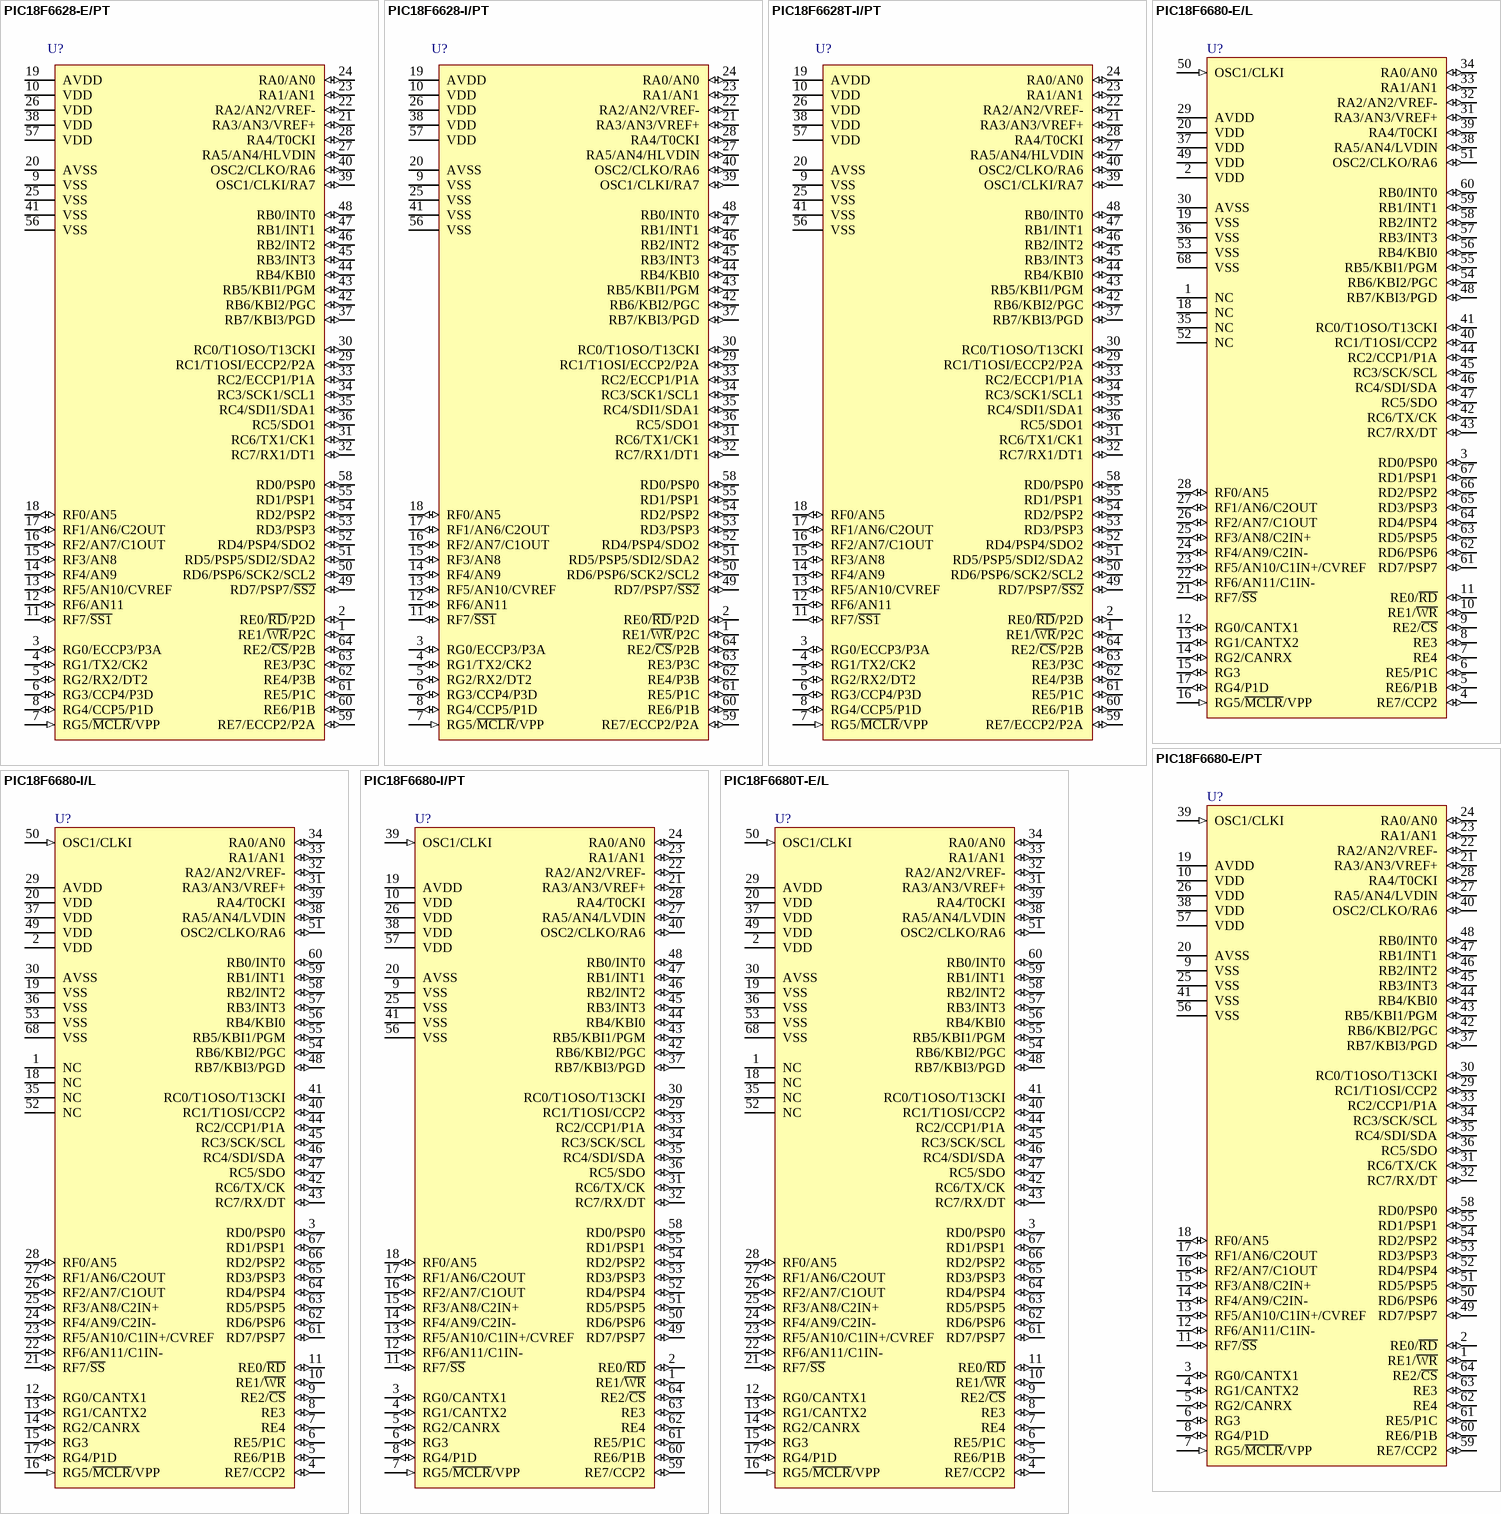
[diagram p72: symbols PIC18F6628-E/PT to PIC18F6680T-E/L]

## PIC18F6628-E/PT
designator U?
Enhanced Flash Microcontroller with 12-Bit A/D and nanoWatt Technology, 96K Flash, 64-Pin TQFP, Extended Temperature; Published: 29-Jan-2009; DatasheetVersion: revA, Aug-2007; PackageVersion: revAW, Oct-2008; PackageReference: TQFP-PT64; Publisher: Altium Limited; PackageDescription: 64-Lead Thin Plastic Quad Flat Pack (PT) - 10x10x1mm Body, 2.00mm [TQFP]; Code_JEDEC: MS-026; ComponentLink1Description: Manufacturer Link; ComponentLink1URL: http://www.microchip.com; ComponentLink2Description: Datasheet; ComponentLink2URL: http://ww1.microchip.com/downloads/en/DeviceDoc/39894A.pdf; ComponentLink3Description: Packaging Specification; ComponentLink3URL: http://ww1.microchip.com/downloads/en/PackagingSpec/00049AW.pdf
footprint TQFP-PT64_N (Thin QFP, 64-Leads, Body 10x10mm, Pitch 0.5mm, IPC Medium Density)
footprint TQFP-PT64_L (Thin QFP, 64-Leads, Body 10x10mm, Pitch 0.5mm, IPC High Density)
footprint TQFP-PT64_M (Thin QFP, 64-Leads, Body 10x10mm, Pitch 0.5mm, IPC Low Density)
pins: 1 RE1/~{WR}/P2C (io), 2 RE0/~{RD}/P2D (io), 3 RG0/ECCP3/P3A (io), 4 RG1/TX2/CK2 (io), 5 RG2/RX2/DT2 (io), 6 RG3/CCP4/P3D (io), 7 RG5/~{MCLR}/VPP (in), 8 RG4/CCP5/P1D (io), 9 VSS (power), 10 VDD (power), 11 RF7/~{SS1} (io), 12 RF6/AN11 (io), 13 RF5/AN10/CVREF (io), 14 RF4/AN9 (io), 15 RF3/AN8 (io), 16 RF2/AN7/C1OUT (io), 17 RF1/AN6/C2OUT (io), 18 RF0/AN5 (io), 19 AVDD (power), 20 AVSS (power), 21 RA3/AN3/VREF+ (io), 22 RA2/AN2/VREF- (io), 23 RA1/AN1 (io), 24 RA0/AN0 (io), 25 VSS (power), 26 VDD (power), 27 RA5/AN4/HLVDIN (io), 28 RA4/T0CKI (io), 29 RC1/T1OSI/ECCP2/P2A (io), 30 RC0/T1OSO/T13CKI (io), 31 RC6/TX1/CK1 (io), 32 RC7/RX1/DT1 (io), 33 RC2/ECCP1/P1A (io), 34 RC3/SCK1/SCL1 (io), 35 RC4/SDI1/SDA1 (io), 36 RC5/SDO1 (io), 37 RB7/KBI3/PGD (io), 38 VDD (power), 39 OSC1/CLKI/RA7 (io), 40 OSC2/CLKO/RA6 (io), 41 VSS (power), 42 RB6/KBI2/PGC (io), 43 RB5/KBI1/PGM (io), 44 RB4/KBI0 (io), 45 RB3/INT3 (io), 46 RB2/INT2 (io), 47 RB1/INT1 (io), 48 RB0/INT0 (io), 49 RD7/PSP7/~{SS2} (io), 50 RD6/PSP6/SCK2/SCL2 (io), 51 RD5/PSP5/SDI2/SDA2 (io), 52 RD4/PSP4/SDO2 (io), 53 RD3/PSP3 (io), 54 RD2/PSP2 (io), 55 RD1/PSP1 (io), 56 VSS (power), 57 VDD (power), 58 RD0/PSP0 (io), 59 RE7/ECCP2/P2A (io), 60 RE6/P1B (io), 61 RE5/P1C (io), 62 RE4/P3B (io), 63 RE3/P3C (io), 64 RE2/~{CS}/P2B (io)

## PIC18F6628-I/PT
designator U?
Enhanced Flash Microcontroller with 12-Bit A/D and nanoWatt Technology, 96K Flash, 64-Pin TQFP, Industrial Temperature; Published: 29-Jan-2009; DatasheetVersion: revA, Aug-2007; PackageVersion: revAW, Oct-2008; PackageReference: TQFP-PT64; Publisher: Altium Limited; PackageDescription: 64-Lead Thin Plastic Quad Flat Pack (PT) - 10x10x1mm Body, 2.00mm [TQFP]; Code_JEDEC: MS-026; ComponentLink1Description: Manufacturer Link; ComponentLink1URL: http://www.microchip.com; ComponentLink2Description: Datasheet; ComponentLink2URL: http://ww1.microchip.com/downloads/en/DeviceDoc/39894A.pdf; ComponentLink3Description: Packaging Specification; ComponentLink3URL: http://ww1.microchip.com/downloads/en/PackagingSpec/00049AW.pdf
footprint TQFP-PT64_N (Thin QFP, 64-Leads, Body 10x10mm, Pitch 0.5mm, IPC Medium Density)
footprint TQFP-PT64_L (Thin QFP, 64-Leads, Body 10x10mm, Pitch 0.5mm, IPC High Density)
footprint TQFP-PT64_M (Thin QFP, 64-Leads, Body 10x10mm, Pitch 0.5mm, IPC Low Density)
pins: 1 RE1/~{WR}/P2C (io), 2 RE0/~{RD}/P2D (io), 3 RG0/ECCP3/P3A (io), 4 RG1/TX2/CK2 (io), 5 RG2/RX2/DT2 (io), 6 RG3/CCP4/P3D (io), 7 RG5/~{MCLR}/VPP (in), 8 RG4/CCP5/P1D (io), 9 VSS (power), 10 VDD (power), 11 RF7/~{SS1} (io), 12 RF6/AN11 (io), 13 RF5/AN10/CVREF (io), 14 RF4/AN9 (io), 15 RF3/AN8 (io), 16 RF2/AN7/C1OUT (io), 17 RF1/AN6/C2OUT (io), 18 RF0/AN5 (io), 19 AVDD (power), 20 AVSS (power), 21 RA3/AN3/VREF+ (io), 22 RA2/AN2/VREF- (io), 23 RA1/AN1 (io), 24 RA0/AN0 (io), 25 VSS (power), 26 VDD (power), 27 RA5/AN4/HLVDIN (io), 28 RA4/T0CKI (io), 29 RC1/T1OSI/ECCP2/P2A (io), 30 RC0/T1OSO/T13CKI (io), 31 RC6/TX1/CK1 (io), 32 RC7/RX1/DT1 (io), 33 RC2/ECCP1/P1A (io), 34 RC3/SCK1/SCL1 (io), 35 RC4/SDI1/SDA1 (io), 36 RC5/SDO1 (io), 37 RB7/KBI3/PGD (io), 38 VDD (power), 39 OSC1/CLKI/RA7 (io), 40 OSC2/CLKO/RA6 (io), 41 VSS (power), 42 RB6/KBI2/PGC (io), 43 RB5/KBI1/PGM (io), 44 RB4/KBI0 (io), 45 RB3/INT3 (io), 46 RB2/INT2 (io), 47 RB1/INT1 (io), 48 RB0/INT0 (io), 49 RD7/PSP7/~{SS2} (io), 50 RD6/PSP6/SCK2/SCL2 (io), 51 RD5/PSP5/SDI2/SDA2 (io), 52 RD4/PSP4/SDO2 (io), 53 RD3/PSP3 (io), 54 RD2/PSP2 (io), 55 RD1/PSP1 (io), 56 VSS (power), 57 VDD (power), 58 RD0/PSP0 (io), 59 RE7/ECCP2/P2A (io), 60 RE6/P1B (io), 61 RE5/P1C (io), 62 RE4/P3B (io), 63 RE3/P3C (io), 64 RE2/~{CS}/P2B (io)

## PIC18F6628T-I/PT
designator U?
Enhanced Flash Microcontroller with 12-Bit A/D and nanoWatt Technology, 96K Flash, 64-Pin TQFP, Industrial Temperature, Tape and Reel; Published: 29-Jan-2009; DatasheetVersion: revA, Aug-2007; PackageVersion: revAW, Oct-2008; PackageReference: TQFP-PT64; Publisher: Altium Limited; PackageDescription: 64-Lead Thin Plastic Quad Flat Pack (PT) - 10x10x1mm Body, 2.00mm [TQFP]; Code_JEDEC: MS-026; ComponentLink1Description: Manufacturer Link; ComponentLink1URL: http://www.microchip.com; ComponentLink2Description: Datasheet; ComponentLink2URL: http://ww1.microchip.com/downloads/en/DeviceDoc/39894A.pdf; ComponentLink3Description: Packaging Specification; ComponentLink3URL: http://ww1.microchip.com/downloads/en/PackagingSpec/00049AW.pdf
footprint TQFP-PT64_N (Thin QFP, 64-Leads, Body 10x10mm, Pitch 0.5mm, IPC Medium Density)
footprint TQFP-PT64_L (Thin QFP, 64-Leads, Body 10x10mm, Pitch 0.5mm, IPC High Density)
footprint TQFP-PT64_M (Thin QFP, 64-Leads, Body 10x10mm, Pitch 0.5mm, IPC Low Density)
pins: 1 RE1/~{WR}/P2C (io), 2 RE0/~{RD}/P2D (io), 3 RG0/ECCP3/P3A (io), 4 RG1/TX2/CK2 (io), 5 RG2/RX2/DT2 (io), 6 RG3/CCP4/P3D (io), 7 RG5/~{MCLR}/VPP (in), 8 RG4/CCP5/P1D (io), 9 VSS (power), 10 VDD (power), 11 RF7/~{SS1} (io), 12 RF6/AN11 (io), 13 RF5/AN10/CVREF (io), 14 RF4/AN9 (io), 15 RF3/AN8 (io), 16 RF2/AN7/C1OUT (io), 17 RF1/AN6/C2OUT (io), 18 RF0/AN5 (io), 19 AVDD (power), 20 AVSS (power), 21 RA3/AN3/VREF+ (io), 22 RA2/AN2/VREF- (io), 23 RA1/AN1 (io), 24 RA0/AN0 (io), 25 VSS (power), 26 VDD (power), 27 RA5/AN4/HLVDIN (io), 28 RA4/T0CKI (io), 29 RC1/T1OSI/ECCP2/P2A (io), 30 RC0/T1OSO/T13CKI (io), 31 RC6/TX1/CK1 (io), 32 RC7/RX1/DT1 (io), 33 RC2/ECCP1/P1A (io), 34 RC3/SCK1/SCL1 (io), 35 RC4/SDI1/SDA1 (io), 36 RC5/SDO1 (io), 37 RB7/KBI3/PGD (io), 38 VDD (power), 39 OSC1/CLKI/RA7 (io), 40 OSC2/CLKO/RA6 (io), 41 VSS (power), 42 RB6/KBI2/PGC (io), 43 RB5/KBI1/PGM (io), 44 RB4/KBI0 (io), 45 RB3/INT3 (io), 46 RB2/INT2 (io), 47 RB1/INT1 (io), 48 RB0/INT0 (io), 49 RD7/PSP7/~{SS2} (io), 50 RD6/PSP6/SCK2/SCL2 (io), 51 RD5/PSP5/SDI2/SDA2 (io), 52 RD4/PSP4/SDO2 (io), 53 RD3/PSP3 (io), 54 RD2/PSP2 (io), 55 RD1/PSP1 (io), 56 VSS (power), 57 VDD (power), 58 RD0/PSP0 (io), 59 RE7/ECCP2/P2A (io), 60 RE6/P1B (io), 61 RE5/P1C (io), 62 RE4/P3B (io), 63 RE3/P3C (io), 64 RE2/~{CS}/P2B (io)

## PIC18F6680-E/L
designator U?
High Performance, 64Kbyte Enhanced Flash Microcontroller with ECAN Module, 68-Pin PLCC, Extended Temperature; Published: 11-Oct-2004; LatestRevisionDate: 29-Jan-2009; LatestRevisionNote: Sch. layout revised. 3D Model Removed.; DatasheetVersion: revC, Mar-2004; PackageVersion: revAW, Oct-2008; PackageReference: PLCC-L68; Publisher: Altium Limited; PackageDescription: 68-Lead Plastic Leaded Chip Carrier (L) - Square [PLCC]; Code_JEDEC: MO-047; Code_IPC: PLCC-68; ComponentLink1Description: Manufacturer Link; ComponentLink1URL: http://www.microchip.com; ComponentLink2Description: Datasheet; ComponentLink2URL: http://ww1.microchip.com/downloads/en/DeviceDoc/30491c.pdf; ComponentLink3Description: Packaging Specification; ComponentLink3URL: http://ww1.microchip.com/downloads/en/PackagingSpec/00049AW.pdf
footprint PLCC-L68_N (Leaded Chip Carrier, 68-Leads, Body 24x24mm, Pitch 1.27mm, IPC Medium Density)
footprint PLCC-L68_L (Leaded Chip Carrier, 68-Leads, Body 24x24mm, Pitch 1.27mm, IPC High Density)
footprint PLCC-L68_M (Leaded Chip Carrier, 68-Leads, Body 24x24mm, Pitch 1.27mm, IPC Low Density)
pins: 1 NC, 2 VDD (power), 3 RD0/PSP0 (io), 4 RE7/CCP2 (io), 5 RE6/P1B (io), 6 RE5/P1C (io), 7 RE4 (io), 8 RE3 (io), 9 RE2/~{CS} (io), 10 RE1/~{WR} (io), 11 RE0/~{RD} (io), 12 RG0/CANTX1 (io), 13 RG1/CANTX2 (io), 14 RG2/CANRX (io), 15 RG3 (io), 16 RG5/~{MCLR}/VPP (in), 17 RG4/P1D (io), 18 NC, 19 VSS (power), 20 VDD (power), 21 RF7/~{SS} (io), 22 RF6/AN11/C1IN- (io), 23 RF5/AN10/C1IN+/CVREF (io), 24 RF4/AN9/C2IN- (io), 25 RF3/AN8/C2IN+ (io), 26 RF2/AN7/C1OUT (io), 27 RF1/AN6/C2OUT (io), 28 RF0/AN5 (io), 29 AVDD (power), 30 AVSS (power), 31 RA3/AN3/VREF+ (io), 32 RA2/AN2/VREF- (io), 33 RA1/AN1 (io), 34 RA0/AN0 (io), 35 NC, 36 VSS (power), 37 VDD (power), 38 RA5/AN4/LVDIN (io), 39 RA4/T0CKI (io), 40 RC1/T1OSI/CCP2 (io), 41 RC0/T1OSO/T13CKI (io), 42 RC6/TX/CK (io), 43 RC7/RX/DT (io), 44 RC2/CCP1/P1A (io), 45 RC3/SCK/SCL (io), 46 RC4/SDI/SDA (io), 47 RC5/SDO (io), 48 RB7/KBI3/PGD (io), 49 VDD (power), 50 OSC1/CLKI (in), 51 OSC2/CLKO/RA6 (io), 52 NC, 53 VSS (power), 54 RB6/KBI2/PGC (io), 55 RB5/KBI1/PGM (io), 56 RB4/KBI0 (io), 57 RB3/INT3 (io), 58 RB2/INT2 (io), 59 RB1/INT1 (io), 60 RB0/INT0 (io), 61 RD7/PSP7 (io), 62 RD6/PSP6 (io), 63 RD5/PSP5 (io), 64 RD4/PSP4 (io), 65 RD3/PSP3 (io), 66 RD2/PSP2 (io), 67 RD1/PSP1 (io), 68 VSS (power)

## PIC18F6680-E/PT
designator U?
High Performance, 64Kbyte Enhanced Flash Microcontroller with ECAN Module, 64-Pin TQFP, Extended Temperature; Published: 11-Oct-2004; LatestRevisionDate: 29-Jan-2009; LatestRevisionNote: Sch. layout revised. 3D Model Removed.; DatasheetVersion: revC, Mar-2004; PackageVersion: revAW, Oct-2008; PackageReference: TQFP-PT64; Publisher: Altium Limited; PackageDescription: 64-Lead Thin Plastic Quad Flat Pack (PT) - 10x10x1mm Body, 2.00mm [TQFP]; Code_JEDEC: MS-026; ComponentLink1Description: Manufacturer Link; ComponentLink1URL: http://www.microchip.com; ComponentLink2Description: Datasheet; ComponentLink2URL: http://ww1.microchip.com/downloads/en/DeviceDoc/30491c.pdf; ComponentLink3Description: Packaging Specification; ComponentLink3URL: http://ww1.microchip.com/downloads/en/PackagingSpec/00049AW.pdf
footprint TQFP-PT64_N (Thin QFP, 64-Leads, Body 10x10mm, Pitch 0.5mm, IPC Medium Density)
footprint TQFP-PT64_L (Thin QFP, 64-Leads, Body 10x10mm, Pitch 0.5mm, IPC High Density)
footprint TQFP-PT64_M (Thin QFP, 64-Leads, Body 10x10mm, Pitch 0.5mm, IPC Low Density)
pins: 1 RE1/~{WR} (io), 2 RE0/~{RD} (io), 3 RG0/CANTX1 (io), 4 RG1/CANTX2 (io), 5 RG2/CANRX (io), 6 RG3 (io), 7 RG5/~{MCLR}/VPP (in), 8 RG4/P1D (io), 9 VSS (power), 10 VDD (power), 11 RF7/~{SS} (io), 12 RF6/AN11/C1IN- (io), 13 RF5/AN10/C1IN+/CVREF (io), 14 RF4/AN9/C2IN- (io), 15 RF3/AN8/C2IN+ (io), 16 RF2/AN7/C1OUT (io), 17 RF1/AN6/C2OUT (io), 18 RF0/AN5 (io), 19 AVDD (power), 20 AVSS (power), 21 RA3/AN3/VREF+ (io), 22 RA2/AN2/VREF- (io), 23 RA1/AN1 (io), 24 RA0/AN0 (io), 25 VSS (power), 26 VDD (power), 27 RA5/AN4/LVDIN (io), 28 RA4/T0CKI (io), 29 RC1/T1OSI/CCP2 (io), 30 RC0/T1OSO/T13CKI (io), 31 RC6/TX/CK (io), 32 RC7/RX/DT (io), 33 RC2/CCP1/P1A (io), 34 RC3/SCK/SCL (io), 35 RC4/SDI/SDA (io), 36 RC5/SDO (io), 37 RB7/KBI3/PGD (io), 38 VDD (power), 39 OSC1/CLKI (in), 40 OSC2/CLKO/RA6 (io), 41 VSS (power), 42 RB6/KBI2/PGC (io), 43 RB5/KBI1/PGM (io), 44 RB4/KBI0 (io), 45 RB3/INT3 (io), 46 RB2/INT2 (io), 47 RB1/INT1 (io), 48 RB0/INT0 (io), 49 RD7/PSP7 (io), 50 RD6/PSP6 (io), 51 RD5/PSP5 (io), 52 RD4/PSP4 (io), 53 RD3/PSP3 (io), 54 RD2/PSP2 (io), 55 RD1/PSP1 (io), 56 VSS (power), 57 VDD (power), 58 RD0/PSP0 (io), 59 RE7/CCP2 (io), 60 RE6/P1B (io), 61 RE5/P1C (io), 62 RE4 (io), 63 RE3 (io), 64 RE2/~{CS} (io)

## PIC18F6680-I/L
designator U?
High Performance, 64Kbyte Enhanced Flash Microcontroller with ECAN Module, 68-Pin PLCC, Industrial Temperature; Published: 11-Oct-2004; LatestRevisionDate: 29-Jan-2009; LatestRevisionNote: Sch. layout revised. 3D Model Removed.; DatasheetVersion: revC, Mar-2004; PackageVersion: revAW, Oct-2008; PackageReference: PLCC-L68; Publisher: Altium Limited; PackageDescription: 68-Lead Plastic Leaded Chip Carrier (L) - Square [PLCC]; Code_JEDEC: MO-047; Code_IPC: PLCC-68; ComponentLink1Description: Manufacturer Link; ComponentLink1URL: http://www.microchip.com; ComponentLink2Description: Datasheet; ComponentLink2URL: http://ww1.microchip.com/downloads/en/DeviceDoc/30491c.pdf; ComponentLink3Description: Packaging Specification; ComponentLink3URL: http://ww1.microchip.com/downloads/en/PackagingSpec/00049AW.pdf
footprint PLCC-L68_N (Leaded Chip Carrier, 68-Leads, Body 24x24mm, Pitch 1.27mm, IPC Medium Density)
footprint PLCC-L68_L (Leaded Chip Carrier, 68-Leads, Body 24x24mm, Pitch 1.27mm, IPC High Density)
footprint PLCC-L68_M (Leaded Chip Carrier, 68-Leads, Body 24x24mm, Pitch 1.27mm, IPC Low Density)
pins: 1 NC, 2 VDD (power), 3 RD0/PSP0 (io), 4 RE7/CCP2 (io), 5 RE6/P1B (io), 6 RE5/P1C (io), 7 RE4 (io), 8 RE3 (io), 9 RE2/~{CS} (io), 10 RE1/~{WR} (io), 11 RE0/~{RD} (io), 12 RG0/CANTX1 (io), 13 RG1/CANTX2 (io), 14 RG2/CANRX (io), 15 RG3 (io), 16 RG5/~{MCLR}/VPP (in), 17 RG4/P1D (io), 18 NC, 19 VSS (power), 20 VDD (power), 21 RF7/~{SS} (io), 22 RF6/AN11/C1IN- (io), 23 RF5/AN10/C1IN+/CVREF (io), 24 RF4/AN9/C2IN- (io), 25 RF3/AN8/C2IN+ (io), 26 RF2/AN7/C1OUT (io), 27 RF1/AN6/C2OUT (io), 28 RF0/AN5 (io), 29 AVDD (power), 30 AVSS (power), 31 RA3/AN3/VREF+ (io), 32 RA2/AN2/VREF- (io), 33 RA1/AN1 (io), 34 RA0/AN0 (io), 35 NC, 36 VSS (power), 37 VDD (power), 38 RA5/AN4/LVDIN (io), 39 RA4/T0CKI (io), 40 RC1/T1OSI/CCP2 (io), 41 RC0/T1OSO/T13CKI (io), 42 RC6/TX/CK (io), 43 RC7/RX/DT (io), 44 RC2/CCP1/P1A (io), 45 RC3/SCK/SCL (io), 46 RC4/SDI/SDA (io), 47 RC5/SDO (io), 48 RB7/KBI3/PGD (io), 49 VDD (power), 50 OSC1/CLKI (in), 51 OSC2/CLKO/RA6 (io), 52 NC, 53 VSS (power), 54 RB6/KBI2/PGC (io), 55 RB5/KBI1/PGM (io), 56 RB4/KBI0 (io), 57 RB3/INT3 (io), 58 RB2/INT2 (io), 59 RB1/INT1 (io), 60 RB0/INT0 (io), 61 RD7/PSP7 (io), 62 RD6/PSP6 (io), 63 RD5/PSP5 (io), 64 RD4/PSP4 (io), 65 RD3/PSP3 (io), 66 RD2/PSP2 (io), 67 RD1/PSP1 (io), 68 VSS (power)

## PIC18F6680-I/PT
designator U?
High Performance, 64Kbyte Enhanced Flash Microcontroller with ECAN Module, 64-Pin TQFP, Industrial Temperature; Published: 11-Oct-2004; LatestRevisionDate: 29-Jan-2009; LatestRevisionNote: Sch. layout revised. 3D Model Removed.; DatasheetVersion: revC, Mar-2004; PackageVersion: revAW, Oct-2008; PackageReference: TQFP-PT64; Publisher: Altium Limited; PackageDescription: 64-Lead Thin Plastic Quad Flat Pack (PT) - 10x10x1mm Body, 2.00mm [TQFP]; Code_JEDEC: MS-026; ComponentLink1Description: Manufacturer Link; ComponentLink1URL: http://www.microchip.com; ComponentLink2Description: Datasheet; ComponentLink2URL: http://ww1.microchip.com/downloads/en/DeviceDoc/30491c.pdf; ComponentLink3Description: Packaging Specification; ComponentLink3URL: http://ww1.microchip.com/downloads/en/PackagingSpec/00049AW.pdf
footprint TQFP-PT64_N (Thin QFP, 64-Leads, Body 10x10mm, Pitch 0.5mm, IPC Medium Density)
footprint TQFP-PT64_L (Thin QFP, 64-Leads, Body 10x10mm, Pitch 0.5mm, IPC High Density)
footprint TQFP-PT64_M (Thin QFP, 64-Leads, Body 10x10mm, Pitch 0.5mm, IPC Low Density)
pins: 1 RE1/~{WR} (io), 2 RE0/~{RD} (io), 3 RG0/CANTX1 (io), 4 RG1/CANTX2 (io), 5 RG2/CANRX (io), 6 RG3 (io), 7 RG5/~{MCLR}/VPP (in), 8 RG4/P1D (io), 9 VSS (power), 10 VDD (power), 11 RF7/~{SS} (io), 12 RF6/AN11/C1IN- (io), 13 RF5/AN10/C1IN+/CVREF (io), 14 RF4/AN9/C2IN- (io), 15 RF3/AN8/C2IN+ (io), 16 RF2/AN7/C1OUT (io), 17 RF1/AN6/C2OUT (io), 18 RF0/AN5 (io), 19 AVDD (power), 20 AVSS (power), 21 RA3/AN3/VREF+ (io), 22 RA2/AN2/VREF- (io), 23 RA1/AN1 (io), 24 RA0/AN0 (io), 25 VSS (power), 26 VDD (power), 27 RA5/AN4/LVDIN (io), 28 RA4/T0CKI (io), 29 RC1/T1OSI/CCP2 (io), 30 RC0/T1OSO/T13CKI (io), 31 RC6/TX/CK (io), 32 RC7/RX/DT (io), 33 RC2/CCP1/P1A (io), 34 RC3/SCK/SCL (io), 35 RC4/SDI/SDA (io), 36 RC5/SDO (io), 37 RB7/KBI3/PGD (io), 38 VDD (power), 39 OSC1/CLKI (in), 40 OSC2/CLKO/RA6 (io), 41 VSS (power), 42 RB6/KBI2/PGC (io), 43 RB5/KBI1/PGM (io), 44 RB4/KBI0 (io), 45 RB3/INT3 (io), 46 RB2/INT2 (io), 47 RB1/INT1 (io), 48 RB0/INT0 (io), 49 RD7/PSP7 (io), 50 RD6/PSP6 (io), 51 RD5/PSP5 (io), 52 RD4/PSP4 (io), 53 RD3/PSP3 (io), 54 RD2/PSP2 (io), 55 RD1/PSP1 (io), 56 VSS (power), 57 VDD (power), 58 RD0/PSP0 (io), 59 RE7/CCP2 (io), 60 RE6/P1B (io), 61 RE5/P1C (io), 62 RE4 (io), 63 RE3 (io), 64 RE2/~{CS} (io)

## PIC18F6680T-E/L
designator U?
High Performance, 64Kbyte Enhanced Flash Microcontroller with ECAN Module, 68-Pin PLCC, Extended Temperature, Tape and Reel; Published: 11-Oct-2004; LatestRevisionDate: 29-Jan-2009; LatestRevisionNote: Sch. layout revised. 3D Model Removed.; DatasheetVersion: revC, Mar-2004; PackageVersion: revAW, Oct-2008; PackageReference: PLCC-L68; Publisher: Altium Limited; PackageDescription: 68-Lead Plastic Leaded Chip Carrier (L) - Square [PLCC]; Code_JEDEC: MO-047; Code_IPC: PLCC-68; ComponentLink1Description: Manufacturer Link; ComponentLink1URL: http://www.microchip.com; ComponentLink2Description: Datasheet; ComponentLink2URL: http://ww1.microchip.com/downloads/en/DeviceDoc/30491c.pdf; ComponentLink3Description: Packaging Specification; ComponentLink3URL: http://ww1.microchip.com/downloads/en/PackagingSpec/00049AW.pdf
footprint PLCC-L68_N (Leaded Chip Carrier, 68-Leads, Body 24x24mm, Pitch 1.27mm, IPC Medium Density)
footprint PLCC-L68_L (Leaded Chip Carrier, 68-Leads, Body 24x24mm, Pitch 1.27mm, IPC High Density)
footprint PLCC-L68_M (Leaded Chip Carrier, 68-Leads, Body 24x24mm, Pitch 1.27mm, IPC Low Density)
pins: 1 NC, 2 VDD (power), 3 RD0/PSP0 (io), 4 RE7/CCP2 (io), 5 RE6/P1B (io), 6 RE5/P1C (io), 7 RE4 (io), 8 RE3 (io), 9 RE2/~{CS} (io), 10 RE1/~{WR} (io), 11 RE0/~{RD} (io), 12 RG0/CANTX1 (io), 13 RG1/CANTX2 (io), 14 RG2/CANRX (io), 15 RG3 (io), 16 RG5/~{MCLR}/VPP (in), 17 RG4/P1D (io), 18 NC, 19 VSS (power), 20 VDD (power), 21 RF7/~{SS} (io), 22 RF6/AN11/C1IN- (io), 23 RF5/AN10/C1IN+/CVREF (io), 24 RF4/AN9/C2IN- (io), 25 RF3/AN8/C2IN+ (io), 26 RF2/AN7/C1OUT (io), 27 RF1/AN6/C2OUT (io), 28 RF0/AN5 (io), 29 AVDD (power), 30 AVSS (power), 31 RA3/AN3/VREF+ (io), 32 RA2/AN2/VREF- (io), 33 RA1/AN1 (io), 34 RA0/AN0 (io), 35 NC, 36 VSS (power), 37 VDD (power), 38 RA5/AN4/LVDIN (io), 39 RA4/T0CKI (io), 40 RC1/T1OSI/CCP2 (io), 41 RC0/T1OSO/T13CKI (io), 42 RC6/TX/CK (io), 43 RC7/RX/DT (io), 44 RC2/CCP1/P1A (io), 45 RC3/SCK/SCL (io), 46 RC4/SDI/SDA (io), 47 RC5/SDO (io), 48 RB7/KBI3/PGD (io), 49 VDD (power), 50 OSC1/CLKI (in), 51 OSC2/CLKO/RA6 (io), 52 NC, 53 VSS (power), 54 RB6/KBI2/PGC (io), 55 RB5/KBI1/PGM (io), 56 RB4/KBI0 (io), 57 RB3/INT3 (io), 58 RB2/INT2 (io), 59 RB1/INT1 (io), 60 RB0/INT0 (io), 61 RD7/PSP7 (io), 62 RD6/PSP6 (io), 63 RD5/PSP5 (io), 64 RD4/PSP4 (io), 65 RD3/PSP3 (io), 66 RD2/PSP2 (io), 67 RD1/PSP1 (io), 68 VSS (power)

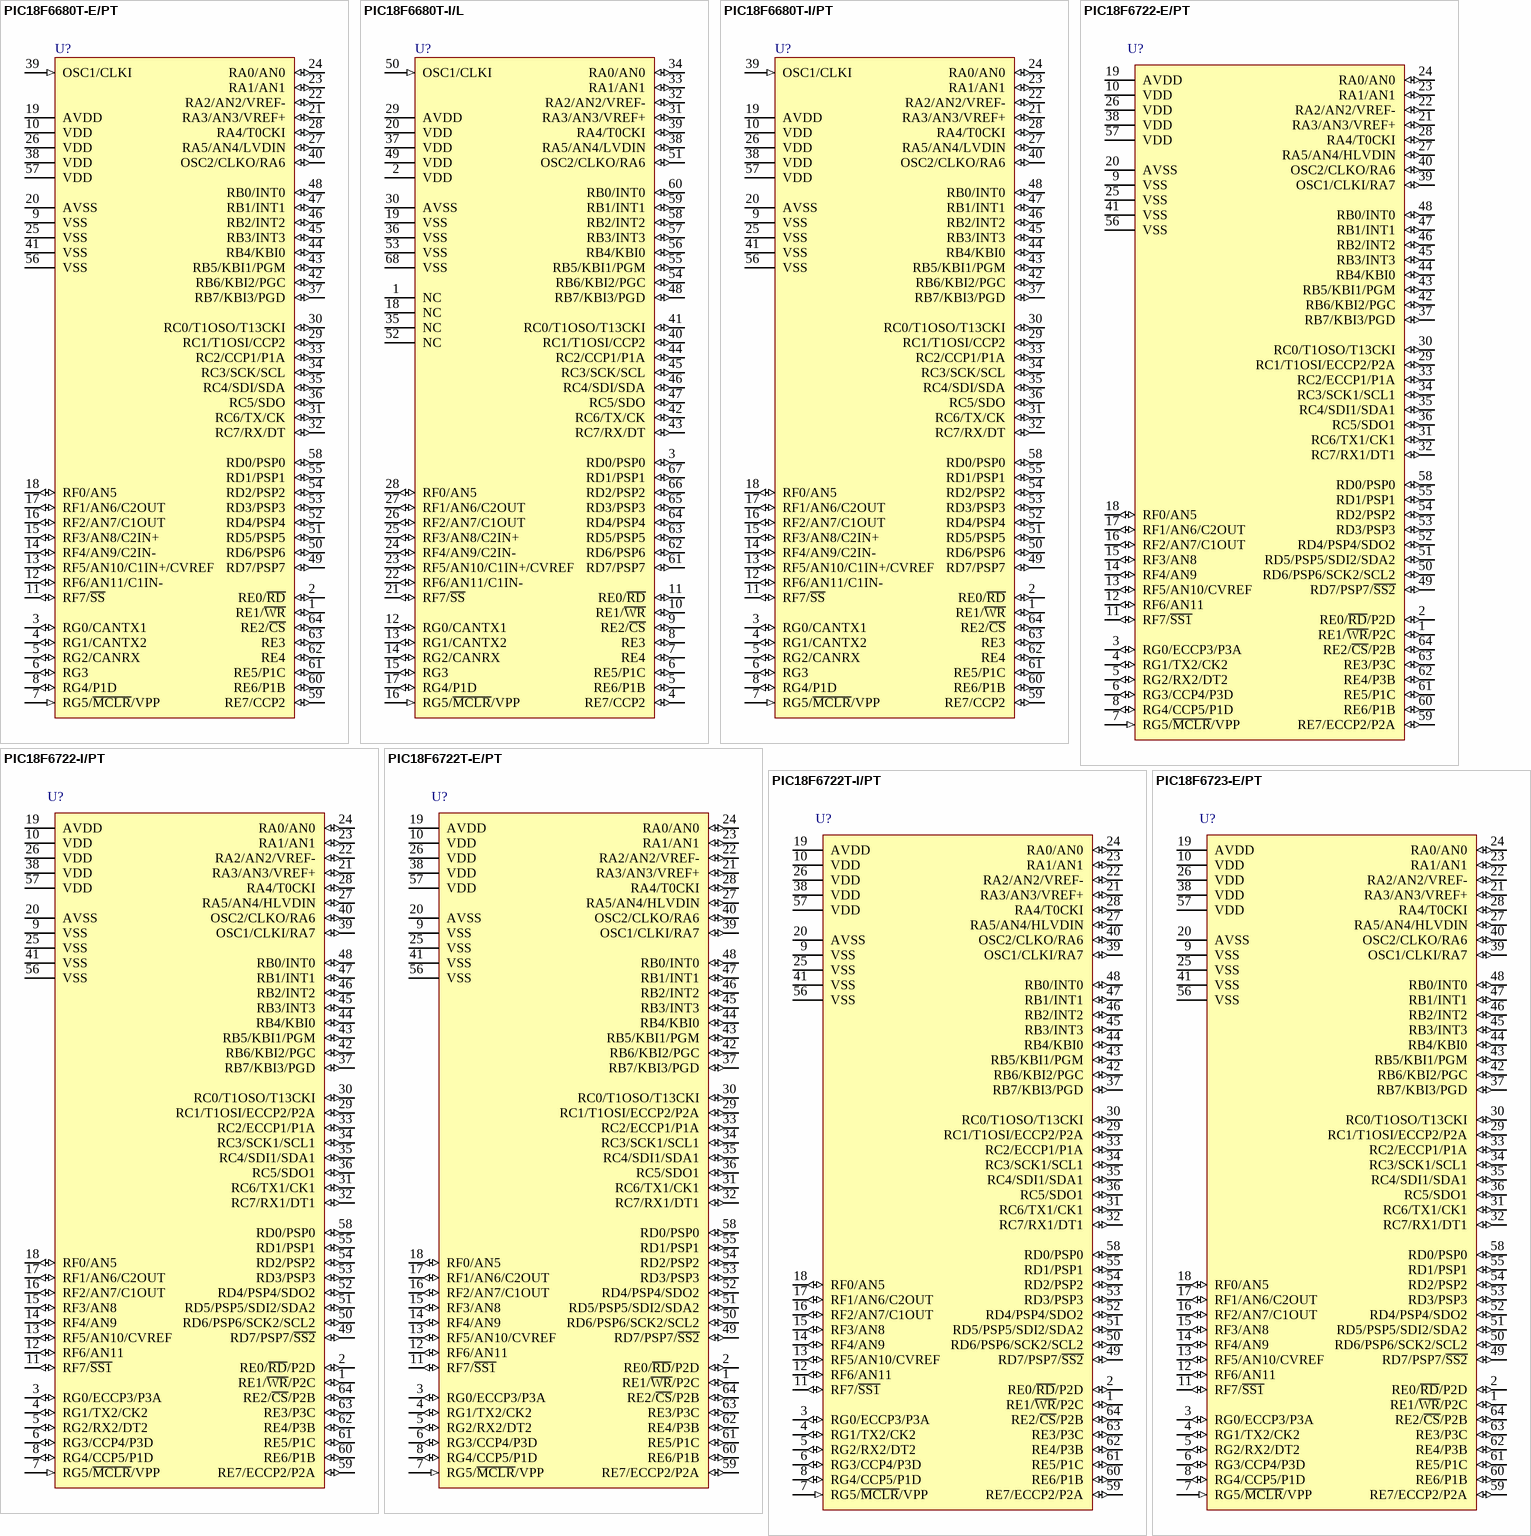
[diagram p73: symbols PIC18F6680T-E/PT to PIC18F6723-E/PT]

## PIC18F6680T-E/PT
designator U?
High Performance, 64Kbyte Enhanced Flash Microcontroller with ECAN Module, 64-Pin TQFP, Extended Temperature, Tape and Reel; Published: 11-Oct-2004; LatestRevisionDate: 29-Jan-2009; LatestRevisionNote: Sch. layout revised. 3D Model Removed.; DatasheetVersion: revC, Mar-2004; PackageVersion: revAW, Oct-2008; PackageReference: TQFP-PT64; Publisher: Altium Limited; PackageDescription: 64-Lead Thin Plastic Quad Flat Pack (PT) - 10x10x1mm Body, 2.00mm [TQFP]; Code_JEDEC: MS-026; ComponentLink1Description: Manufacturer Link; ComponentLink1URL: http://www.microchip.com; ComponentLink2Description: Datasheet; ComponentLink2URL: http://ww1.microchip.com/downloads/en/DeviceDoc/30491c.pdf; ComponentLink3Description: Packaging Specification; ComponentLink3URL: http://ww1.microchip.com/downloads/en/PackagingSpec/00049AW.pdf
footprint TQFP-PT64_N (Thin QFP, 64-Leads, Body 10x10mm, Pitch 0.5mm, IPC Medium Density)
footprint TQFP-PT64_L (Thin QFP, 64-Leads, Body 10x10mm, Pitch 0.5mm, IPC High Density)
footprint TQFP-PT64_M (Thin QFP, 64-Leads, Body 10x10mm, Pitch 0.5mm, IPC Low Density)
pins: 1 RE1/~{WR} (io), 2 RE0/~{RD} (io), 3 RG0/CANTX1 (io), 4 RG1/CANTX2 (io), 5 RG2/CANRX (io), 6 RG3 (io), 7 RG5/~{MCLR}/VPP (in), 8 RG4/P1D (io), 9 VSS (power), 10 VDD (power), 11 RF7/~{SS} (io), 12 RF6/AN11/C1IN- (io), 13 RF5/AN10/C1IN+/CVREF (io), 14 RF4/AN9/C2IN- (io), 15 RF3/AN8/C2IN+ (io), 16 RF2/AN7/C1OUT (io), 17 RF1/AN6/C2OUT (io), 18 RF0/AN5 (io), 19 AVDD (power), 20 AVSS (power), 21 RA3/AN3/VREF+ (io), 22 RA2/AN2/VREF- (io), 23 RA1/AN1 (io), 24 RA0/AN0 (io), 25 VSS (power), 26 VDD (power), 27 RA5/AN4/LVDIN (io), 28 RA4/T0CKI (io), 29 RC1/T1OSI/CCP2 (io), 30 RC0/T1OSO/T13CKI (io), 31 RC6/TX/CK (io), 32 RC7/RX/DT (io), 33 RC2/CCP1/P1A (io), 34 RC3/SCK/SCL (io), 35 RC4/SDI/SDA (io), 36 RC5/SDO (io), 37 RB7/KBI3/PGD (io), 38 VDD (power), 39 OSC1/CLKI (in), 40 OSC2/CLKO/RA6 (io), 41 VSS (power), 42 RB6/KBI2/PGC (io), 43 RB5/KBI1/PGM (io), 44 RB4/KBI0 (io), 45 RB3/INT3 (io), 46 RB2/INT2 (io), 47 RB1/INT1 (io), 48 RB0/INT0 (io), 49 RD7/PSP7 (io), 50 RD6/PSP6 (io), 51 RD5/PSP5 (io), 52 RD4/PSP4 (io), 53 RD3/PSP3 (io), 54 RD2/PSP2 (io), 55 RD1/PSP1 (io), 56 VSS (power), 57 VDD (power), 58 RD0/PSP0 (io), 59 RE7/CCP2 (io), 60 RE6/P1B (io), 61 RE5/P1C (io), 62 RE4 (io), 63 RE3 (io), 64 RE2/~{CS} (io)

## PIC18F6680T-I/L
designator U?
High Performance, 64Kbyte Enhanced Flash Microcontroller with ECAN Module, 68-Pin PLCC, Industrial Temperature, Tape and Reel; Published: 11-Oct-2004; LatestRevisionDate: 29-Jan-2009; LatestRevisionNote: Sch. layout revised. 3D Model Removed.; DatasheetVersion: revC, Mar-2004; PackageVersion: revAW, Oct-2008; PackageReference: PLCC-L68; Publisher: Altium Limited; PackageDescription: 68-Lead Plastic Leaded Chip Carrier (L) - Square [PLCC]; Code_JEDEC: MO-047; Code_IPC: PLCC-68; ComponentLink1Description: Manufacturer Link; ComponentLink1URL: http://www.microchip.com; ComponentLink2Description: Datasheet; ComponentLink2URL: http://ww1.microchip.com/downloads/en/DeviceDoc/30491c.pdf; ComponentLink3Description: Packaging Specification; ComponentLink3URL: http://ww1.microchip.com/downloads/en/PackagingSpec/00049AW.pdf
footprint PLCC-L68_N (Leaded Chip Carrier, 68-Leads, Body 24x24mm, Pitch 1.27mm, IPC Medium Density)
footprint PLCC-L68_L (Leaded Chip Carrier, 68-Leads, Body 24x24mm, Pitch 1.27mm, IPC High Density)
footprint PLCC-L68_M (Leaded Chip Carrier, 68-Leads, Body 24x24mm, Pitch 1.27mm, IPC Low Density)
pins: 1 NC, 2 VDD (power), 3 RD0/PSP0 (io), 4 RE7/CCP2 (io), 5 RE6/P1B (io), 6 RE5/P1C (io), 7 RE4 (io), 8 RE3 (io), 9 RE2/~{CS} (io), 10 RE1/~{WR} (io), 11 RE0/~{RD} (io), 12 RG0/CANTX1 (io), 13 RG1/CANTX2 (io), 14 RG2/CANRX (io), 15 RG3 (io), 16 RG5/~{MCLR}/VPP (in), 17 RG4/P1D (io), 18 NC, 19 VSS (power), 20 VDD (power), 21 RF7/~{SS} (io), 22 RF6/AN11/C1IN- (io), 23 RF5/AN10/C1IN+/CVREF (io), 24 RF4/AN9/C2IN- (io), 25 RF3/AN8/C2IN+ (io), 26 RF2/AN7/C1OUT (io), 27 RF1/AN6/C2OUT (io), 28 RF0/AN5 (io), 29 AVDD (power), 30 AVSS (power), 31 RA3/AN3/VREF+ (io), 32 RA2/AN2/VREF- (io), 33 RA1/AN1 (io), 34 RA0/AN0 (io), 35 NC, 36 VSS (power), 37 VDD (power), 38 RA5/AN4/LVDIN (io), 39 RA4/T0CKI (io), 40 RC1/T1OSI/CCP2 (io), 41 RC0/T1OSO/T13CKI (io), 42 RC6/TX/CK (io), 43 RC7/RX/DT (io), 44 RC2/CCP1/P1A (io), 45 RC3/SCK/SCL (io), 46 RC4/SDI/SDA (io), 47 RC5/SDO (io), 48 RB7/KBI3/PGD (io), 49 VDD (power), 50 OSC1/CLKI (in), 51 OSC2/CLKO/RA6 (io), 52 NC, 53 VSS (power), 54 RB6/KBI2/PGC (io), 55 RB5/KBI1/PGM (io), 56 RB4/KBI0 (io), 57 RB3/INT3 (io), 58 RB2/INT2 (io), 59 RB1/INT1 (io), 60 RB0/INT0 (io), 61 RD7/PSP7 (io), 62 RD6/PSP6 (io), 63 RD5/PSP5 (io), 64 RD4/PSP4 (io), 65 RD3/PSP3 (io), 66 RD2/PSP2 (io), 67 RD1/PSP1 (io), 68 VSS (power)